# Altium schematic symbol library SCH-26325_B1_Library.SchLib: 29 symbols
Pins are listed as number, name and electrical type; pins without a type are passive.

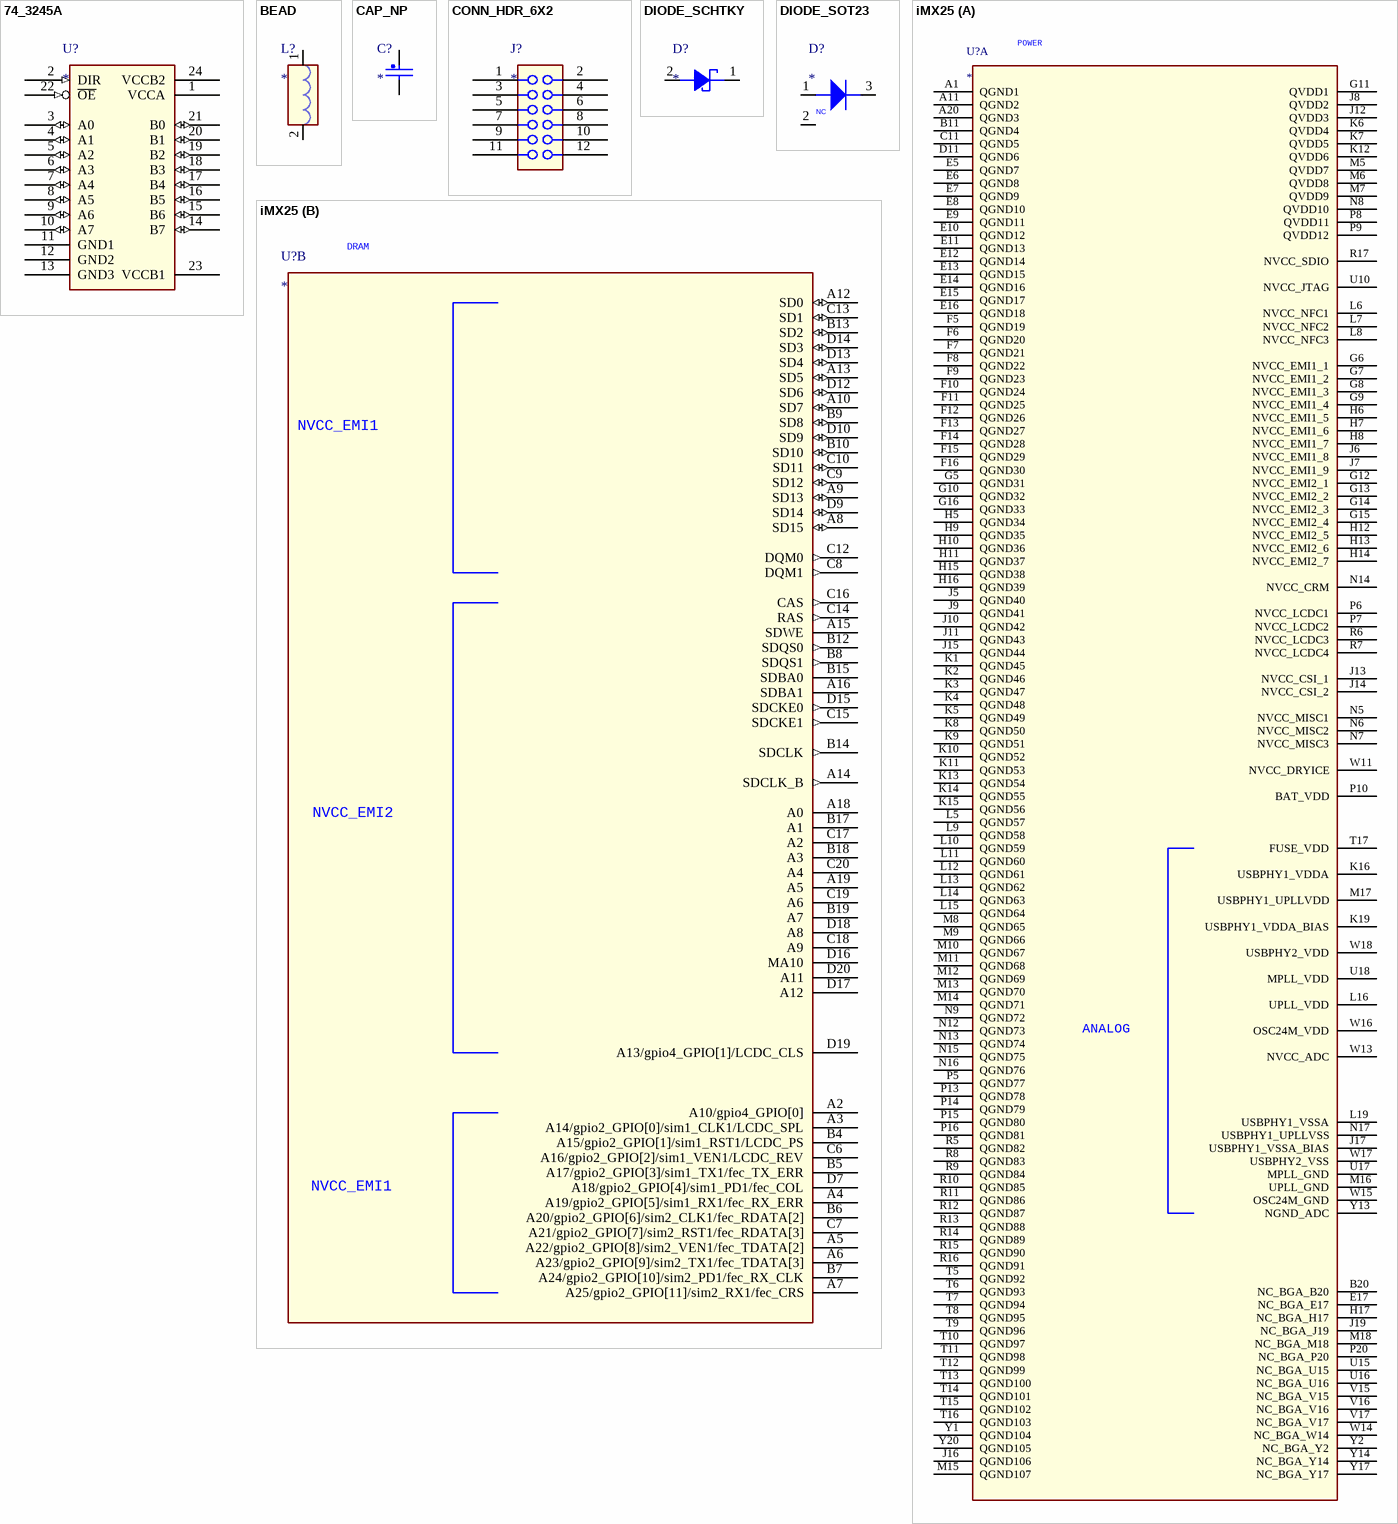
[diagram p0: symbols 74_3245A to iMX25]

## 74_3245A
designator U?
pins: 1 VCCA (power), 2 DIR (in), 3 A0 (io), 4 A1 (io), 5 A2 (io), 6 A3 (io), 7 A4 (io), 8 A5 (io), 9 A6 (io), 10 A7 (io), 11 GND1 (power), 12 GND2 (power), 13 GND3 (power), 14 B7 (io), 15 B6 (io), 16 B5 (io), 17 B4 (io), 18 B3 (io), 19 B2 (io), 20 B1 (io), 21 B0 (io), 22 ~{OE} (in), 23 VCCB1 (power), 24 VCCB2 (power)

## BEAD
designator L?
pins: 1, 2

## CAP_NP
designator C?
pins: 1, 2

## CONN_HDR_6X2
designator J?
pins: 1 A1, 2 B1, 3 A2, 4 B2, 5 A3, 6 B3, 7 A4, 8 B4, 9 A5, 10 B5, 11 A6, 12 B6

## DIODE_SCHTKY
designator D?
pins: 1 C, 2 A

## DIODE_SOT23
designator D?
pins: 1 ANODE1, 2 NC, 3 CATHODE1ANODE2

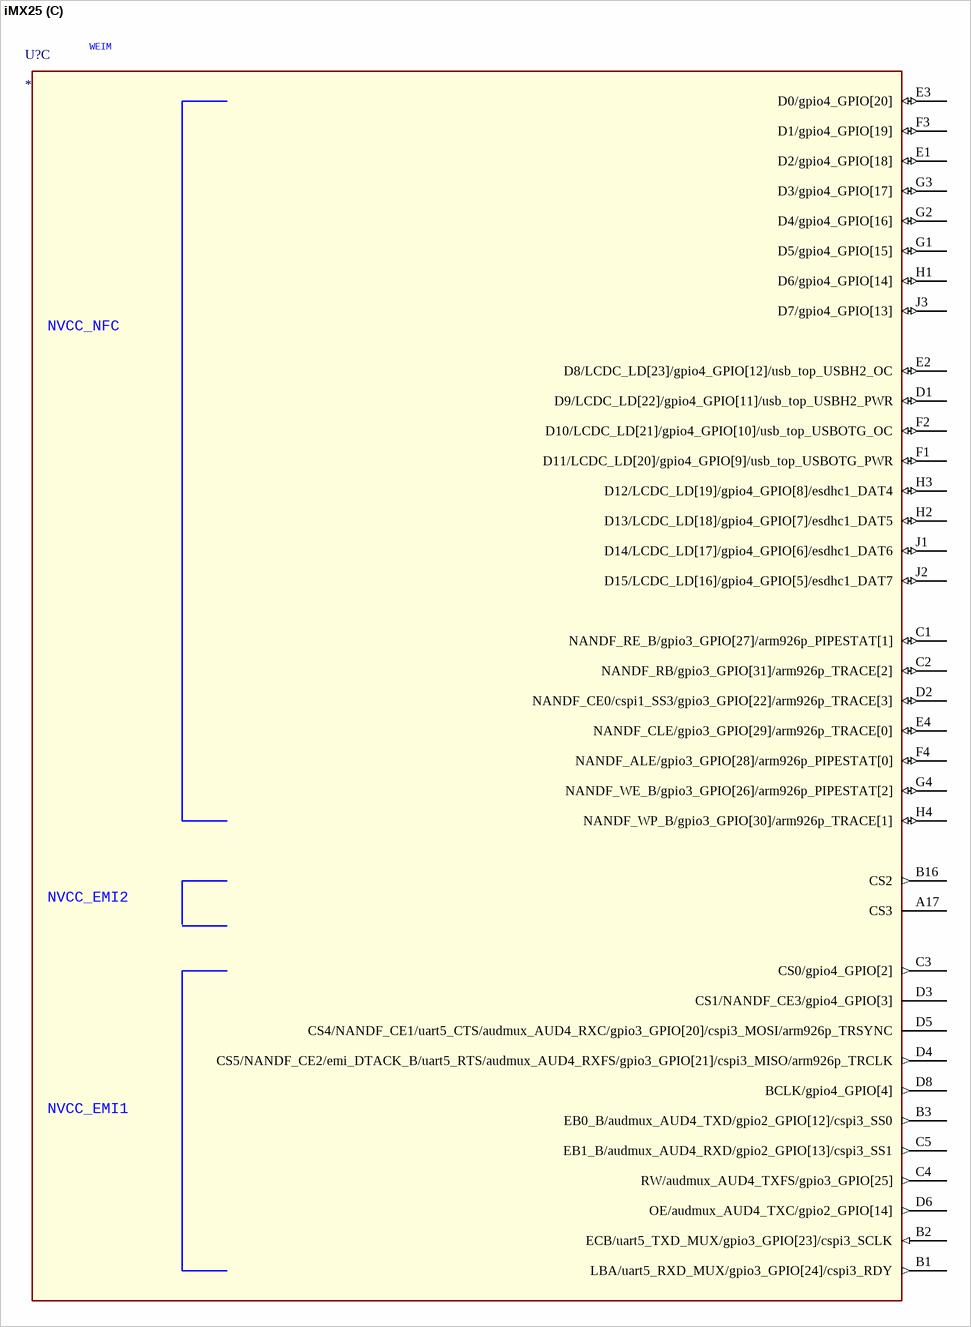
[diagram p1: symbol iMX25]

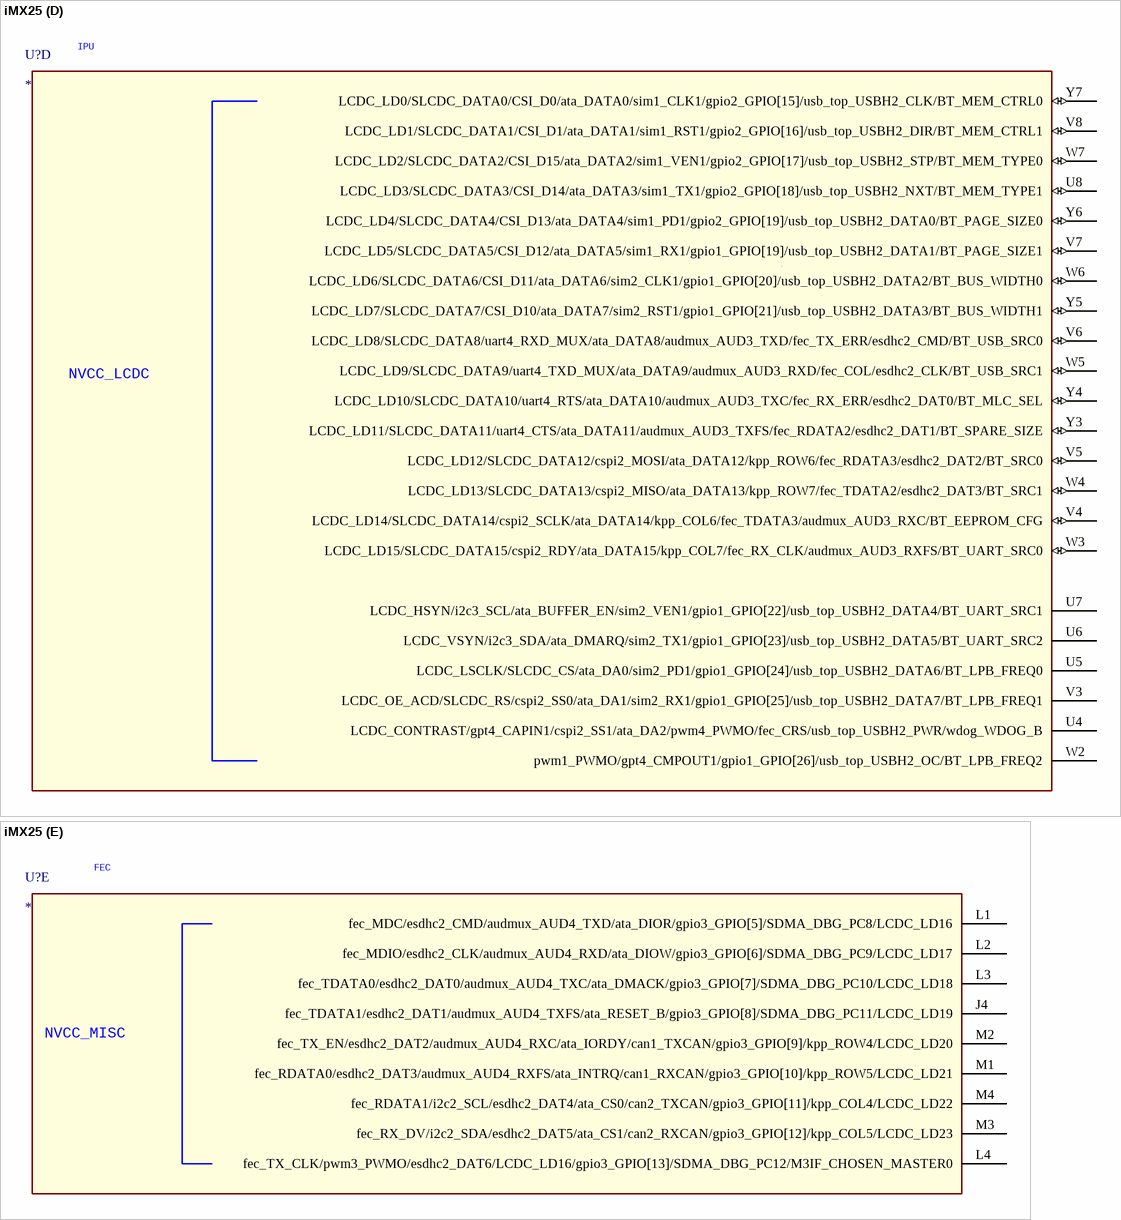
[diagram p2: symbol iMX25]

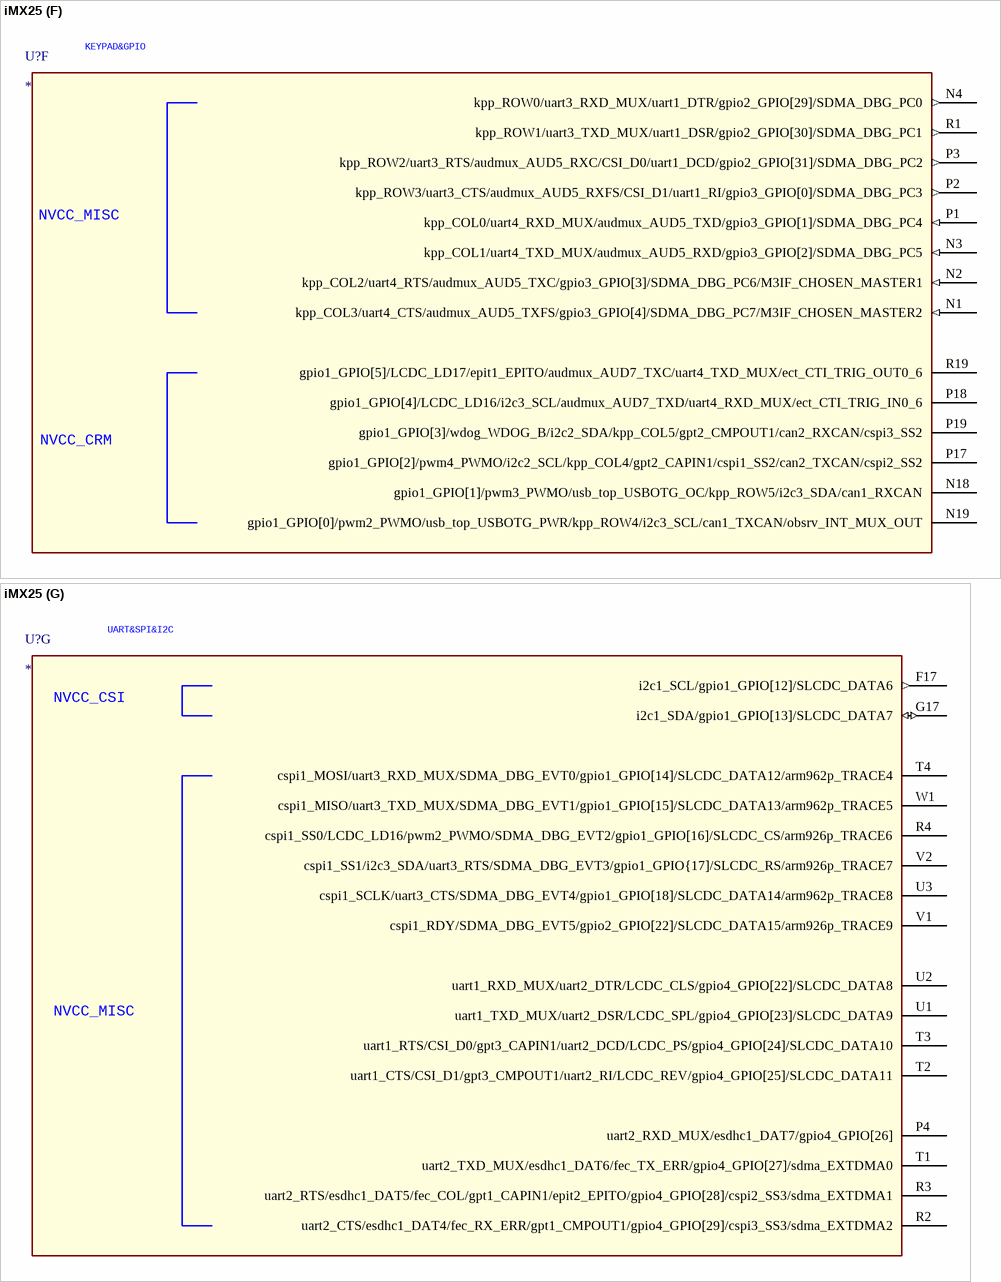
[diagram p3: symbol iMX25]

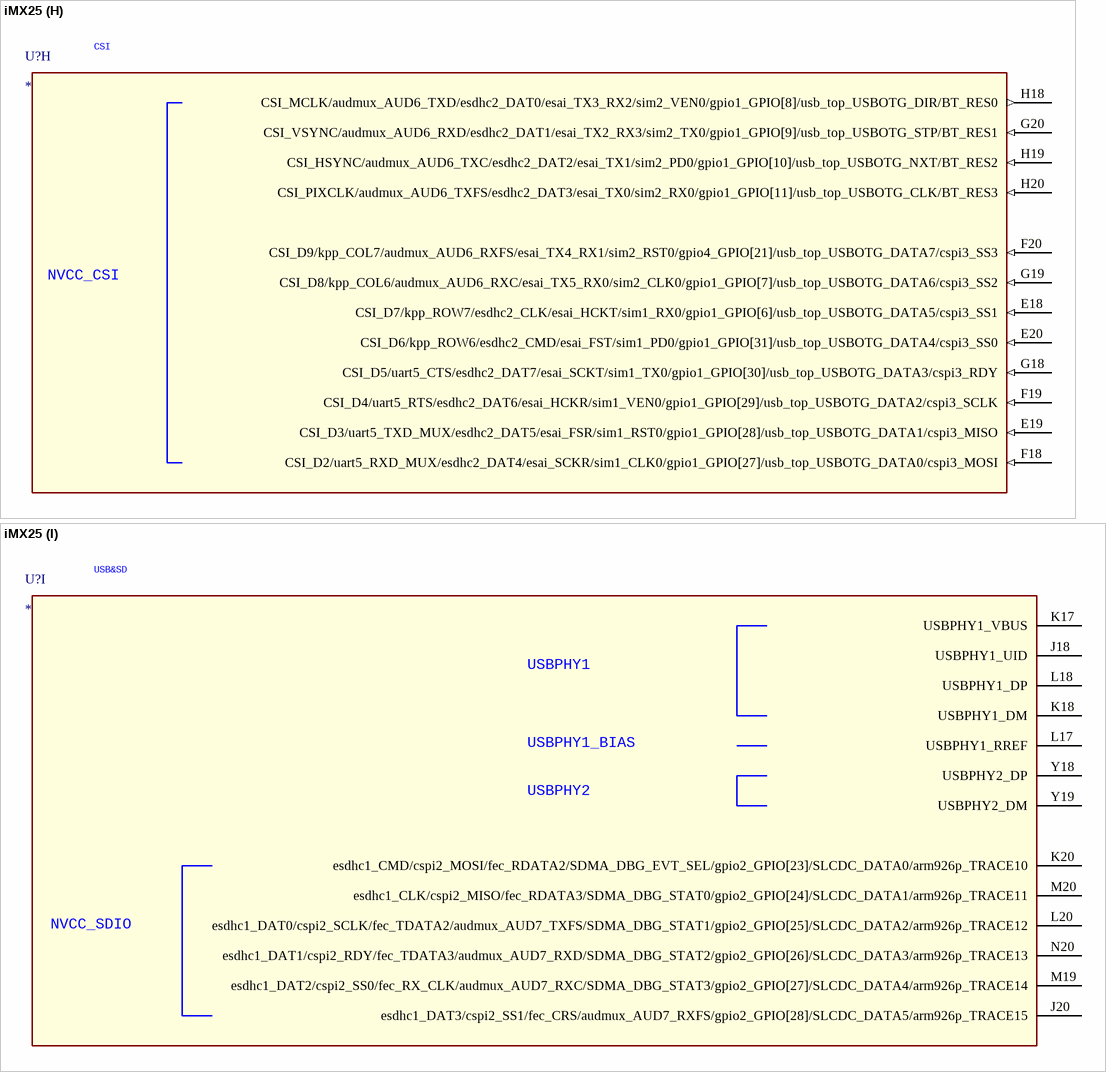
[diagram p4: symbol iMX25]

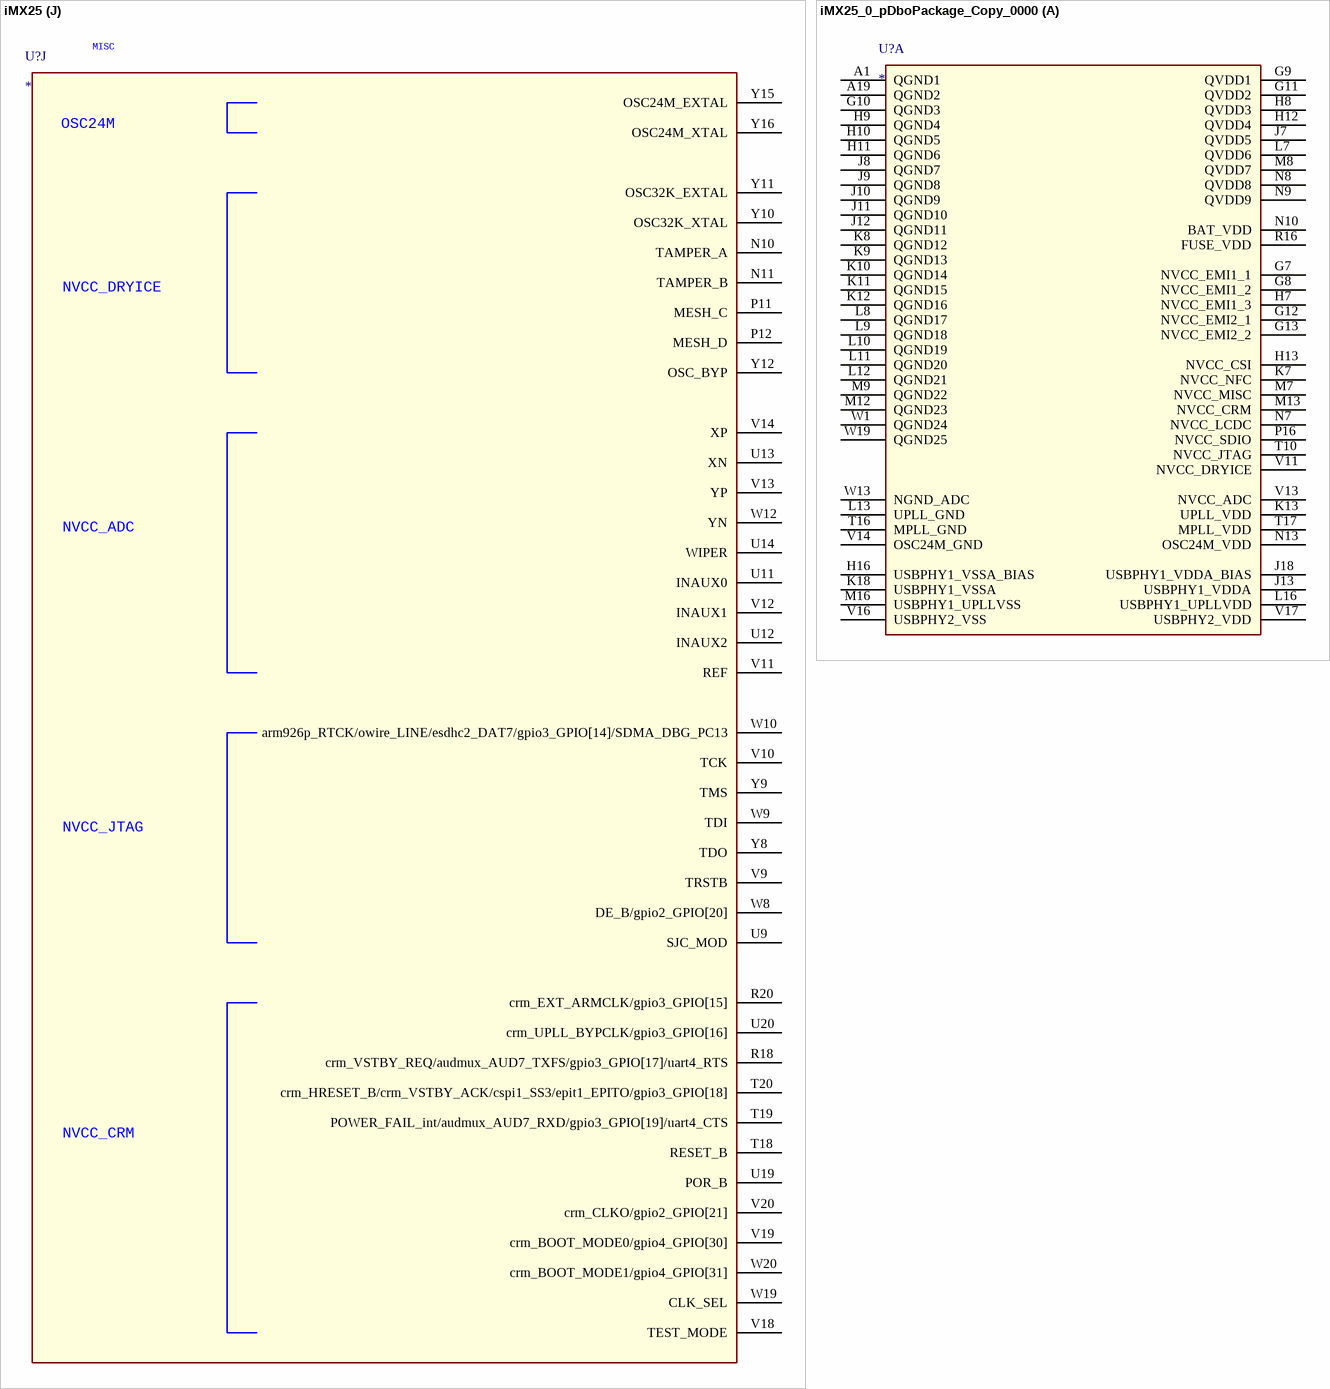
[diagram p5: symbols iMX25 to iMX25_0_pDboPackage_Copy_0000]

## iMX25
designator U?
part A pins: A1 QGND1, A11 QGND2, A20 QGND3, B11 QGND4, B20 NC_BGA_B20, C11 QGND5, D11 QGND6, E5 QGND7, E6 QGND8, E7 QGND9, E8 QGND10, E9 QGND11, E10 QGND12, E11 QGND13, E12 QGND14, E13 QGND15, E14 QGND16, E15 QGND17, E16 QGND18, E17 NC_BGA_E17, F5 QGND19, F6 QGND20, F7 QGND21, F8 QGND22, F9 QGND23, F10 QGND24, F11 QGND25, F12 QGND26, F13 QGND27, F14 QGND28, F15 QGND29, F16 QGND30, G5 QGND31, G6 NVCC_EMI1_1 (power), G7 NVCC_EMI1_2 (power), G8 NVCC_EMI1_3 (power), G9 NVCC_EMI1_4 (power), G10 QGND32, G11 QVDD1 (power), G12 NVCC_EMI2_1 (power), G13 NVCC_EMI2_2 (power), G14 NVCC_EMI2_3 (power), G15 NVCC_EMI2_4 (power), G16 QGND33, H5 QGND34, H6 NVCC_EMI1_5 (power), H7 NVCC_EMI1_6 (power), H8 NVCC_EMI1_7 (power), H9 QGND35, H10 QGND36, H11 QGND37, H12 NVCC_EMI2_5 (power), H13 NVCC_EMI2_6 (power), H14 NVCC_EMI2_7 (power), H15 QGND38, H16 QGND39, H17 NC_BGA_H17, J5 QGND40, J6 NVCC_EMI1_8 (power), J7 NVCC_EMI1_9 (power), J8 QVDD2 (power), J9 QGND41, J10 QGND42, J11 QGND43, J12 QVDD3 (power), J13 NVCC_CSI_1 (power), J14 NVCC_CSI_2 (power), J15 QGND44, J16 QGND106, J17 USBPHY1_VSSA_BIAS (power), J19 NC_BGA_J19, K1 QGND45, K2 QGND46, K3 QGND47, K4 QGND48, K5 QGND49, K6 QVDD4 (power), K7 QVDD5 (power), K8 QGND50, K9 QGND51, K10 QGND52, K11 QGND53, K12 QVDD6 (power), K13 QGND54, K14 QGND55, K15 QGND56, K16 USBPHY1_VDDA (power), K19 USBPHY1_VDDA_BIAS (power), L5 QGND57, L6 NVCC_NFC1 (power), L7 NVCC_NFC2 (power), L8 NVCC_NFC3 (power), L9 QGND58, L10 QGND59, L11 QGND60, L12 QGND61, L13 QGND62, L14 QGND63, L15 QGND64, L16 UPLL_VDD (power), L19 USBPHY1_VSSA (power), M5 QVDD7 (power), M6 QVDD8 (power), M7 QVDD9 (power), M8 QGND65, M9 QGND66, M10 QGND67, M11 QGND68, M12 QGND69, M13 QGND70, M14 QGND71, M15 QGND107, M16 UPLL_GND (power), M17 USBPHY1_UPLLVDD (power), M18 NC_BGA_M18, N5 NVCC_MISC1 (power), N6 NVCC_MISC2 (power), N7 NVCC_MISC3 (power), N8 QVDD10 (power), N9 QGND72, N12 QGND73, N13 QGND74, N14 NVCC_CRM (power), N15 QGND75, N16 QGND76, N17 USBPHY1_UPLLVSS (power), P5 QGND77, P6 NVCC_LCDC1 (power), P7 NVCC_LCDC2 (power), P8 QVDD11 (power), P9 QVDD12 (power), P10 BAT_VDD (power), P13 QGND78, P14 QGND79, P15 QGND80, P16 QGND81, P20 NC_BGA_P20, R5 QGND82, R6 NVCC_LCDC3 (power), R7 NVCC_LCDC4 (power), R8 QGND83, R9 QGND84, R10 QGND85, R11 QGND86, R12 QGND87, R13 QGND88, R14 QGND89, R15 QGND90, R16 QGND91, R17 NVCC_SDIO (power), T5 QGND92, T6 QGND93, T7 QGND94, T8 QGND95, T9 QGND96, T10 QGND97, T11 QGND98, T12 QGND99, T13 QGND100, T14 QGND101, T15 QGND102, T16 QGND103, T17 FUSE_VDD (power), U10 NVCC_JTAG (power), U15 NC_BGA_U15, U16 NC_BGA_U16, U17 MPLL_GND (power), U18 MPLL_VDD (power), V15 NC_BGA_V15, V16 NC_BGA_V16, V17 NC_BGA_V17, W11 NVCC_DRYICE (power), W13 NVCC_ADC (power), W14 NC_BGA_W14, W15 OSC24M_GND (power), W16 OSC24M_VDD (power), W17 USBPHY2_VSS (power), W18 USBPHY2_VDD (power), Y1 QGND104, Y2 NC_BGA_Y2, Y13 NGND_ADC (power), Y14 NC_BGA_Y14, Y17 NC_BGA_Y17, Y20 QGND105
part B pins: A2 A10/gpio4_GPIO[0], A3 A14/gpio2_GPIO[0]/sim1_CLK1/LCDC_SPL, A4 A19/gpio2_GPIO[5]/sim1_RX1/fec_RX_ERR, A5 A22/gpio2_GPIO[8]/sim2_VEN1/fec_TDATA[2], A6 A23/gpio2_GPIO[9]/sim2_TX1/fec_TDATA[3], A7 A25/gpio2_GPIO[11]/sim2_RX1/fec_CRS, A8 SD15 (io), A9 SD13 (io), A10 SD7 (io), A12 SD0 (io), A13 SD5 (io), A14 SDCLK_B (out), A15 SDWE, A16 SDBA1, A18 A0, A19 A5, B4 A15/gpio2_GPIO[1]/sim1_RST1/LCDC_PS, B5 A17/gpio2_GPIO[3]/sim1_TX1/fec_TX_ERR, B6 A20/gpio2_GPIO[6]/sim2_CLK1/fec_RDATA[2], B7 A24/gpio2_GPIO[10]/sim2_PD1/fec_RX_CLK, B8 SDQS1 (out), B9 SD8 (io), B10 SD10 (io), B12 SDQS0 (out), B13 SD2 (io), B14 SDCLK (out), B15 SDBA0, B17 A1, B18 A3, B19 A7, C6 A16/gpio2_GPIO[2]/sim1_VEN1/LCDC_REV, C7 A21/gpio2_GPIO[7]/sim2_RST1/fec_RDATA[3], C8 DQM1 (out), C9 SD12 (io), C10 SD11 (io), C12 DQM0 (out), C13 SD1 (io), C14 RAS (out), C15 SDCKE1 (out), C16 CAS (out), C17 A2, C18 A9, C19 A6, C20 A4, D7 A18/gpio2_GPIO[4]/sim1_PD1/fec_COL, D9 SD14 (io), D10 SD9 (io), D12 SD6 (io), D13 SD4 (io), D14 SD3 (io), D15 SDCKE0 (out), D16 MA10, D17 A12, D18 A8, D19 A13/gpio4_GPIO[1]/LCDC_CLS, D20 A11
part C pins: A17 CS3, B1 LBA/uart5_RXD_MUX/gpio3_GPIO[24]/cspi3_RDY (out), B2 ECB/uart5_TXD_MUX/gpio3_GPIO[23]/cspi3_SCLK (in), B3 EB0_B/audmux_AUD4_TXD/gpio2_GPIO[12]/cspi3_SS0 (out), B16 CS2 (out), C1 NANDF_RE_B/gpio3_GPIO[27]/arm926p_PIPESTAT[1] (io), C2 NANDF_RB/gpio3_GPIO[31]/arm926p_TRACE[2] (io), C3 CS0/gpio4_GPIO[2] (out), C4 RW/audmux_AUD4_TXFS/gpio3_GPIO[25] (out), C5 EB1_B/audmux_AUD4_RXD/gpio2_GPIO[13]/cspi3_SS1 (out), D1 D9/LCDC_LD[22]/gpio4_GPIO[11]/usb_top_USBH2_PWR (io), D2 NANDF_CE0/cspi1_SS3/gpio3_GPIO[22]/arm926p_TRACE[3] (io), D3 CS1/NANDF_CE3/gpio4_GPIO[3], D4 CS5/NANDF_CE2/emi_DTACK_B/uart5_RTS/audmux_AUD4_RXFS/gpio3_GPIO[21]/cspi3_MISO/arm926p_TRCLK (out), D5 CS4/NANDF_CE1/uart5_CTS/audmux_AUD4_RXC/gpio3_GPIO[20]/cspi3_MOSI/arm926p_TRSYNC, D6 OE/audmux_AUD4_TXC/gpio2_GPIO[14] (out), D8 BCLK/gpio4_GPIO[4] (out), E1 D2/gpio4_GPIO[18] (io), E2 D8/LCDC_LD[23]/gpio4_GPIO[12]/usb_top_USBH2_OC (io), E3 D0/gpio4_GPIO[20] (io), E4 NANDF_CLE/gpio3_GPIO[29]/arm926p_TRACE[0] (io), F1 D11/LCDC_LD[20]/gpio4_GPIO[9]/usb_top_USBOTG_PWR (io), F2 D10/LCDC_LD[21]/gpio4_GPIO[10]/usb_top_USBOTG_OC (io), F3 D1/gpio4_GPIO[19] (io), F4 NANDF_ALE/gpio3_GPIO[28]/arm926p_PIPESTAT[0] (io), G1 D5/gpio4_GPIO[15] (io), G2 D4/gpio4_GPIO[16] (io), G3 D3/gpio4_GPIO[17] (io), G4 NANDF_WE_B/gpio3_GPIO[26]/arm926p_PIPESTAT[2] (io), H1 D6/gpio4_GPIO[14] (io), H2 D13/LCDC_LD[18]/gpio4_GPIO[7]/esdhc1_DAT5 (io), H3 D12/LCDC_LD[19]/gpio4_GPIO[8]/esdhc1_DAT4 (io), H4 NANDF_WP_B/gpio3_GPIO[30]/arm926p_TRACE[1] (io), J1 D14/LCDC_LD[17]/gpio4_GPIO[6]/esdhc1_DAT6 (io), J2 D15/LCDC_LD[16]/gpio4_GPIO[5]/esdhc1_DAT7 (io), J3 D7/gpio4_GPIO[13] (io)
part D pins: U4 LCDC_CONTRAST/gpt4_CAPIN1/cspi2_SS1/ata_DA2/pwm4_PWMO/fec_CRS/usb_top_USBH2_PWR/wdog_WDOG_B, U5 LCDC_LSCLK/SLCDC_CS/ata_DA0/sim2_PD1/gpio1_GPIO[24]/usb_top_USBH2_DATA6/BT_LPB_FREQ0, U6 LCDC_VSYN/i2c3_SDA/ata_DMARQ/sim2_TX1/gpio1_GPIO[23]/usb_top_USBH2_DATA5/BT_UART_SRC2, U7 LCDC_HSYN/i2c3_SCL/ata_BUFFER_EN/sim2_VEN1/gpio1_GPIO[22]/usb_top_USBH2_DATA4/BT_UART_SRC1, U8 LCDC_LD3/SLCDC_DATA3/CSI_D14/ata_DATA3/sim1_TX1/gpio2_GPIO[18]/usb_top_USBH2_NXT/BT_MEM_TYPE1 (io), V3 LCDC_OE_ACD/SLCDC_RS/cspi2_SS0/ata_DA1/sim2_RX1/gpio1_GPIO[25]/usb_top_USBH2_DATA7/BT_LPB_FREQ1, V4 LCDC_LD14/SLCDC_DATA14/cspi2_SCLK/ata_DATA14/kpp_COL6/fec_TDATA3/audmux_AUD3_RXC/BT_EEPROM_CFG (io), V5 LCDC_LD12/SLCDC_DATA12/cspi2_MOSI/ata_DATA12/kpp_ROW6/fec_RDATA3/esdhc2_DAT2/BT_SRC0 (io), V6 LCDC_LD8/SLCDC_DATA8/uart4_RXD_MUX/ata_DATA8/audmux_AUD3_TXD/fec_TX_ERR/esdhc2_CMD/BT_USB_SRC0 (io), V7 LCDC_LD5/SLCDC_DATA5/CSI_D12/ata_DATA5/sim1_RX1/gpio1_GPIO[19]/usb_top_USBH2_DATA1/BT_PAGE_SIZE1 (io), V8 LCDC_LD1/SLCDC_DATA1/CSI_D1/ata_DATA1/sim1_RST1/gpio2_GPIO[16]/usb_top_USBH2_DIR/BT_MEM_CTRL1 (io), W2 pwm1_PWMO/gpt4_CMPOUT1/gpio1_GPIO[26]/usb_top_USBH2_OC/BT_LPB_FREQ2, W3 LCDC_LD15/SLCDC_DATA15/cspi2_RDY/ata_DATA15/kpp_COL7/fec_RX_CLK/audmux_AUD3_RXFS/BT_UART_SRC0 (io), W4 LCDC_LD13/SLCDC_DATA13/cspi2_MISO/ata_DATA13/kpp_ROW7/fec_TDATA2/esdhc2_DAT3/BT_SRC1 (io), W5 LCDC_LD9/SLCDC_DATA9/uart4_TXD_MUX/ata_DATA9/audmux_AUD3_RXD/fec_COL/esdhc2_CLK/BT_USB_SRC1 (io), W6 LCDC_LD6/SLCDC_DATA6/CSI_D11/ata_DATA6/sim2_CLK1/gpio1_GPIO[20]/usb_top_USBH2_DATA2/BT_BUS_WIDTH0 (io), W7 LCDC_LD2/SLCDC_DATA2/CSI_D15/ata_DATA2/sim1_VEN1/gpio2_GPIO[17]/usb_top_USBH2_STP/BT_MEM_TYPE0 (io), Y3 LCDC_LD11/SLCDC_DATA11/uart4_CTS/ata_DATA11/audmux_AUD3_TXFS/fec_RDATA2/esdhc2_DAT1/BT_SPARE_SIZE (io), Y4 LCDC_LD10/SLCDC_DATA10/uart4_RTS/ata_DATA10/audmux_AUD3_TXC/fec_RX_ERR/esdhc2_DAT0/BT_MLC_SEL (io), Y5 LCDC_LD7/SLCDC_DATA7/CSI_D10/ata_DATA7/sim2_RST1/gpio1_GPIO[21]/usb_top_USBH2_DATA3/BT_BUS_WIDTH1 (io), Y6 LCDC_LD4/SLCDC_DATA4/CSI_D13/ata_DATA4/sim1_PD1/gpio2_GPIO[19]/usb_top_USBH2_DATA0/BT_PAGE_SIZE0 (io), Y7 LCDC_LD0/SLCDC_DATA0/CSI_D0/ata_DATA0/sim1_CLK1/gpio2_GPIO[15]/usb_top_USBH2_CLK/BT_MEM_CTRL0 (io)
part E pins: J4 fec_TDATA1/esdhc2_DAT1/audmux_AUD4_TXFS/ata_RESET_B/gpio3_GPIO[8]/SDMA_DBG_PC11/LCDC_LD19, L1 fec_MDC/esdhc2_CMD/audmux_AUD4_TXD/ata_DIOR/gpio3_GPIO[5]/SDMA_DBG_PC8/LCDC_LD16, L2 fec_MDIO/esdhc2_CLK/audmux_AUD4_RXD/ata_DIOW/gpio3_GPIO[6]/SDMA_DBG_PC9/LCDC_LD17, L3 fec_TDATA0/esdhc2_DAT0/audmux_AUD4_TXC/ata_DMACK/gpio3_GPIO[7]/SDMA_DBG_PC10/LCDC_LD18, L4 fec_TX_CLK/pwm3_PWMO/esdhc2_DAT6/LCDC_LD16/gpio3_GPIO[13]/SDMA_DBG_PC12/M3IF_CHOSEN_MASTER0, M1 fec_RDATA0/esdhc2_DAT3/audmux_AUD4_RXFS/ata_INTRQ/can1_RXCAN/gpio3_GPIO[10]/kpp_ROW5/LCDC_LD21, M2 fec_TX_EN/esdhc2_DAT2/audmux_AUD4_RXC/ata_IORDY/can1_TXCAN/gpio3_GPIO[9]/kpp_ROW4/LCDC_LD20, M3 fec_RX_DV/i2c2_SDA/esdhc2_DAT5/ata_CS1/can2_RXCAN/gpio3_GPIO[12]/kpp_COL5/LCDC_LD23, M4 fec_RDATA1/i2c2_SCL/esdhc2_DAT4/ata_CS0/can2_TXCAN/gpio3_GPIO[11]/kpp_COL4/LCDC_LD22
part F pins: N1 kpp_COL3/uart4_CTS/audmux_AUD5_TXFS/gpio3_GPIO[4]/SDMA_DBG_PC7/M3IF_CHOSEN_MASTER2 (in), N2 kpp_COL2/uart4_RTS/audmux_AUD5_TXC/gpio3_GPIO[3]/SDMA_DBG_PC6/M3IF_CHOSEN_MASTER1 (in), N3 kpp_COL1/uart4_TXD_MUX/audmux_AUD5_RXD/gpio3_GPIO[2]/SDMA_DBG_PC5 (in), N4 kpp_ROW0/uart3_RXD_MUX/uart1_DTR/gpio2_GPIO[29]/SDMA_DBG_PC0 (out), N18 gpio1_GPIO[1]/pwm3_PWMO/usb_top_USBOTG_OC/kpp_ROW5/i2c3_SDA/can1_RXCAN, N19 gpio1_GPIO[0]/pwm2_PWMO/usb_top_USBOTG_PWR/kpp_ROW4/i2c3_SCL/can1_TXCAN/obsrv_INT_MUX_OUT, P1 kpp_COL0/uart4_RXD_MUX/audmux_AUD5_TXD/gpio3_GPIO[1]/SDMA_DBG_PC4 (in), P2 kpp_ROW3/uart3_CTS/audmux_AUD5_RXFS/CSI_D1/uart1_RI/gpio3_GPIO[0]/SDMA_DBG_PC3 (out), P3 kpp_ROW2/uart3_RTS/audmux_AUD5_RXC/CSI_D0/uart1_DCD/gpio2_GPIO[31]/SDMA_DBG_PC2 (out), P17 gpio1_GPIO[2]/pwm4_PWMO/i2c2_SCL/kpp_COL4/gpt2_CAPIN1/cspi1_SS2/can2_TXCAN/cspi2_SS2, P18 gpio1_GPIO[4]/LCDC_LD16/i2c3_SCL/audmux_AUD7_TXD/uart4_RXD_MUX/ect_CTI_TRIG_IN0_6, P19 gpio1_GPIO[3]/wdog_WDOG_B/i2c2_SDA/kpp_COL5/gpt2_CMPOUT1/can2_RXCAN/cspi3_SS2, R1 kpp_ROW1/uart3_TXD_MUX/uart1_DSR/gpio2_GPIO[30]/SDMA_DBG_PC1 (out), R19 gpio1_GPIO[5]/LCDC_LD17/epit1_EPITO/audmux_AUD7_TXC/uart4_TXD_MUX/ect_CTI_TRIG_OUT0_6
part G pins: F17 i2c1_SCL/gpio1_GPIO[12]/SLCDC_DATA6 (out), G17 i2c1_SDA/gpio1_GPIO[13]/SLCDC_DATA7 (io), P4 uart2_RXD_MUX/esdhc1_DAT7/gpio4_GPIO[26], R2 uart2_CTS/esdhc1_DAT4/fec_RX_ERR/gpt1_CMPOUT1/gpio4_GPIO[29]/cspi3_SS3/sdma_EXTDMA2, R3 uart2_RTS/esdhc1_DAT5/fec_COL/gpt1_CAPIN1/epit2_EPITO/gpio4_GPIO[28]/cspi2_SS3/sdma_EXTDMA1, R4 cspi1_SS0/LCDC_LD16/pwm2_PWMO/SDMA_DBG_EVT2/gpio1_GPIO[16]/SLCDC_CS/arm926p_TRACE6, T1 uart2_TXD_MUX/esdhc1_DAT6/fec_TX_ERR/gpio4_GPIO[27]/sdma_EXTDMA0, T2 uart1_CTS/CSI_D1/gpt3_CMPOUT1/uart2_RI/LCDC_REV/gpio4_GPIO[25]/SLCDC_DATA11, T3 uart1_RTS/CSI_D0/gpt3_CAPIN1/uart2_DCD/LCDC_PS/gpio4_GPIO[24]/SLCDC_DATA10, T4 cspi1_MOSI/uart3_RXD_MUX/SDMA_DBG_EVT0/gpio1_GPIO[14]/SLCDC_DATA12/arm962p_TRACE4, U1 uart1_TXD_MUX/uart2_DSR/LCDC_SPL/gpio4_GPIO[23]/SLCDC_DATA9, U2 uart1_RXD_MUX/uart2_DTR/LCDC_CLS/gpio4_GPIO[22]/SLCDC_DATA8, U3 cspi1_SCLK/uart3_CTS/SDMA_DBG_EVT4/gpio1_GPIO[18]/SLCDC_DATA14/arm962p_TRACE8, V1 cspi1_RDY/SDMA_DBG_EVT5/gpio2_GPIO[22]/SLCDC_DATA15/arm926p_TRACE9, V2 cspi1_SS1/i2c3_SDA/uart3_RTS/SDMA_DBG_EVT3/gpio1_GPIO{17]/SLCDC_RS/arm926p_TRACE7, W1 cspi1_MISO/uart3_TXD_MUX/SDMA_DBG_EVT1/gpio1_GPIO[15]/SLCDC_DATA13/arm962p_TRACE5
part H pins: E18 CSI_D7/kpp_ROW7/esdhc2_CLK/esai_HCKT/sim1_RX0/gpio1_GPIO[6]/usb_top_USBOTG_DATA5/cspi3_SS1 (in), E19 CSI_D3/uart5_TXD_MUX/esdhc2_DAT5/esai_FSR/sim1_RST0/gpio1_GPIO[28]/usb_top_USBOTG_DATA1/cspi3_MISO (in), E20 CSI_D6/kpp_ROW6/esdhc2_CMD/esai_FST/sim1_PD0/gpio1_GPIO[31]/usb_top_USBOTG_DATA4/cspi3_SS0 (in), F18 CSI_D2/uart5_RXD_MUX/esdhc2_DAT4/esai_SCKR/sim1_CLK0/gpio1_GPIO[27]/usb_top_USBOTG_DATA0/cspi3_MOSI (in), F19 CSI_D4/uart5_RTS/esdhc2_DAT6/esai_HCKR/sim1_VEN0/gpio1_GPIO[29]/usb_top_USBOTG_DATA2/cspi3_SCLK (in), F20 CSI_D9/kpp_COL7/audmux_AUD6_RXFS/esai_TX4_RX1/sim2_RST0/gpio4_GPIO[21]/usb_top_USBOTG_DATA7/cspi3_SS3 (in), G18 CSI_D5/uart5_CTS/esdhc2_DAT7/esai_SCKT/sim1_TX0/gpio1_GPIO[30]/usb_top_USBOTG_DATA3/cspi3_RDY (in), G19 CSI_D8/kpp_COL6/audmux_AUD6_RXC/esai_TX5_RX0/sim2_CLK0/gpio1_GPIO[7]/usb_top_USBOTG_DATA6/cspi3_SS2 (in), G20 CSI_VSYNC/audmux_AUD6_RXD/esdhc2_DAT1/esai_TX2_RX3/sim2_TX0/gpio1_GPIO[9]/usb_top_USBOTG_STP/BT_RES1 (in), H18 CSI_MCLK/audmux_AUD6_TXD/esdhc2_DAT0/esai_TX3_RX2/sim2_VEN0/gpio1_GPIO[8]/usb_top_USBOTG_DIR/BT_RES0 (out), H19 CSI_HSYNC/audmux_AUD6_TXC/esdhc2_DAT2/esai_TX1/sim2_PD0/gpio1_GPIO[10]/usb_top_USBOTG_NXT/BT_RES2 (in), H20 CSI_PIXCLK/audmux_AUD6_TXFS/esdhc2_DAT3/esai_TX0/sim2_RX0/gpio1_GPIO[11]/usb_top_USBOTG_CLK/BT_RES3 (in)
part I pins: J18 USBPHY1_UID, J20 esdhc1_DAT3/cspi2_SS1/fec_CRS/audmux_AUD7_RXFS/gpio2_GPIO[28]/SLCDC_DATA5/arm926p_TRACE15, K17 USBPHY1_VBUS, K18 USBPHY1_DM, K20 esdhc1_CMD/cspi2_MOSI/fec_RDATA2/SDMA_DBG_EVT_SEL/gpio2_GPIO[23]/SLCDC_DATA0/arm926p_TRACE10, L17 USBPHY1_RREF, L18 USBPHY1_DP, L20 esdhc1_DAT0/cspi2_SCLK/fec_TDATA2/audmux_AUD7_TXFS/SDMA_DBG_STAT1/gpio2_GPIO[25]/SLCDC_DATA2/arm926p_TRACE12, M19 esdhc1_DAT2/cspi2_SS0/fec_RX_CLK/audmux_AUD7_RXC/SDMA_DBG_STAT3/gpio2_GPIO[27]/SLCDC_DATA4/arm926p_TRACE14, M20 esdhc1_CLK/cspi2_MISO/fec_RDATA3/SDMA_DBG_STAT0/gpio2_GPIO[24]/SLCDC_DATA1/arm926p_TRACE11, N20 esdhc1_DAT1/cspi2_RDY/fec_TDATA3/audmux_AUD7_RXD/SDMA_DBG_STAT2/gpio2_GPIO[26]/SLCDC_DATA3/arm926p_TRACE13, Y18 USBPHY2_DP, Y19 USBPHY2_DM
part J pins: N10 TAMPER_A, N11 TAMPER_B, P11 MESH_C, P12 MESH_D, R18 crm_VSTBY_REQ/audmux_AUD7_TXFS/gpio3_GPIO[17]/uart4_RTS, R20 crm_EXT_ARMCLK/gpio3_GPIO[15], T18 RESET_B, T19 POWER_FAIL_int/audmux_AUD7_RXD/gpio3_GPIO[19]/uart4_CTS, T20 crm_HRESET_B/crm_VSTBY_ACK/cspi1_SS3/epit1_EPITO/gpio3_GPIO[18], U9 SJC_MOD, U11 INAUX0, U12 INAUX2, U13 XN, U14 WIPER, U19 POR_B, U20 crm_UPLL_BYPCLK/gpio3_GPIO[16], V9 TRSTB, V10 TCK, V11 REF, V12 INAUX1, V13 YP, V14 XP, V18 TEST_MODE, V19 crm_BOOT_MODE0/gpio4_GPIO[30], V20 crm_CLKO/gpio2_GPIO[21], W8 DE_B/gpio2_GPIO[20], W9 TDI, W10 arm926p_RTCK/owire_LINE/esdhc2_DAT7/gpio3_GPIO[14]/SDMA_DBG_PC13, W12 YN, W19 CLK_SEL, W20 crm_BOOT_MODE1/gpio4_GPIO[31], Y8 TDO, Y9 TMS, Y10 OSC32K_XTAL, Y11 OSC32K_EXTAL, Y12 OSC_BYP, Y15 OSC24M_EXTAL, Y16 OSC24M_XTAL
part A text: POWER; ANALOG
part B text: DRAM; NVCC_EMI1; NVCC_EMI2
part C text: WEIM; NVCC_NFC; NVCC_EMI2; NVCC_EMI1
part D text: IPU; NVCC_LCDC
part E text: FEC; NVCC_MISC
part F text: KEYPAD&GPIO; NVCC_MISC
part G text: UART&SPI&I2C; NVCC_CSI; NVCC_MISC
part H text: CSI; NVCC_CSI
part I text: USB&SD; USBPHY1; USBPHY1_BIAS; USBPHY2
part J text: MISC; OSC24M

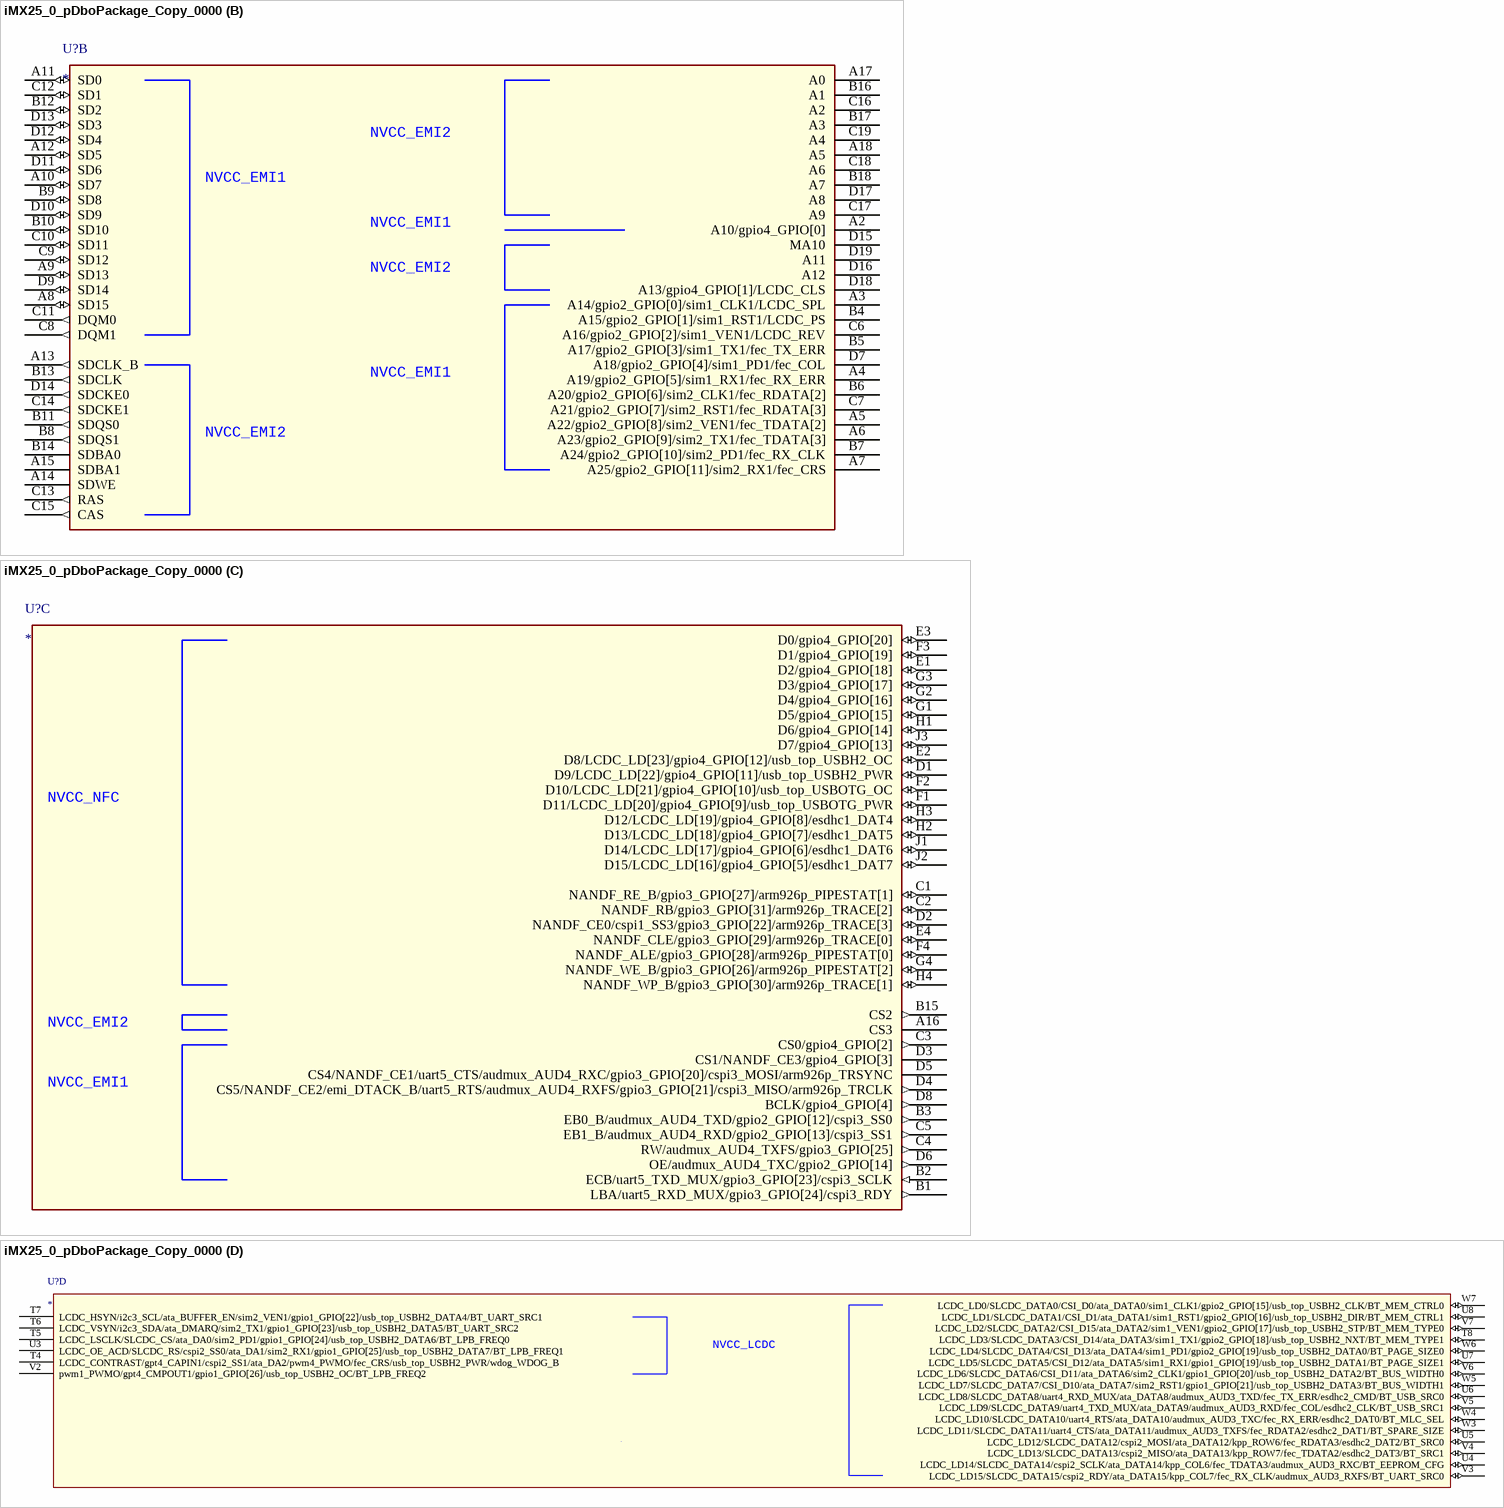
[diagram p6: symbol iMX25_0_pDboPackage_Copy_0000]

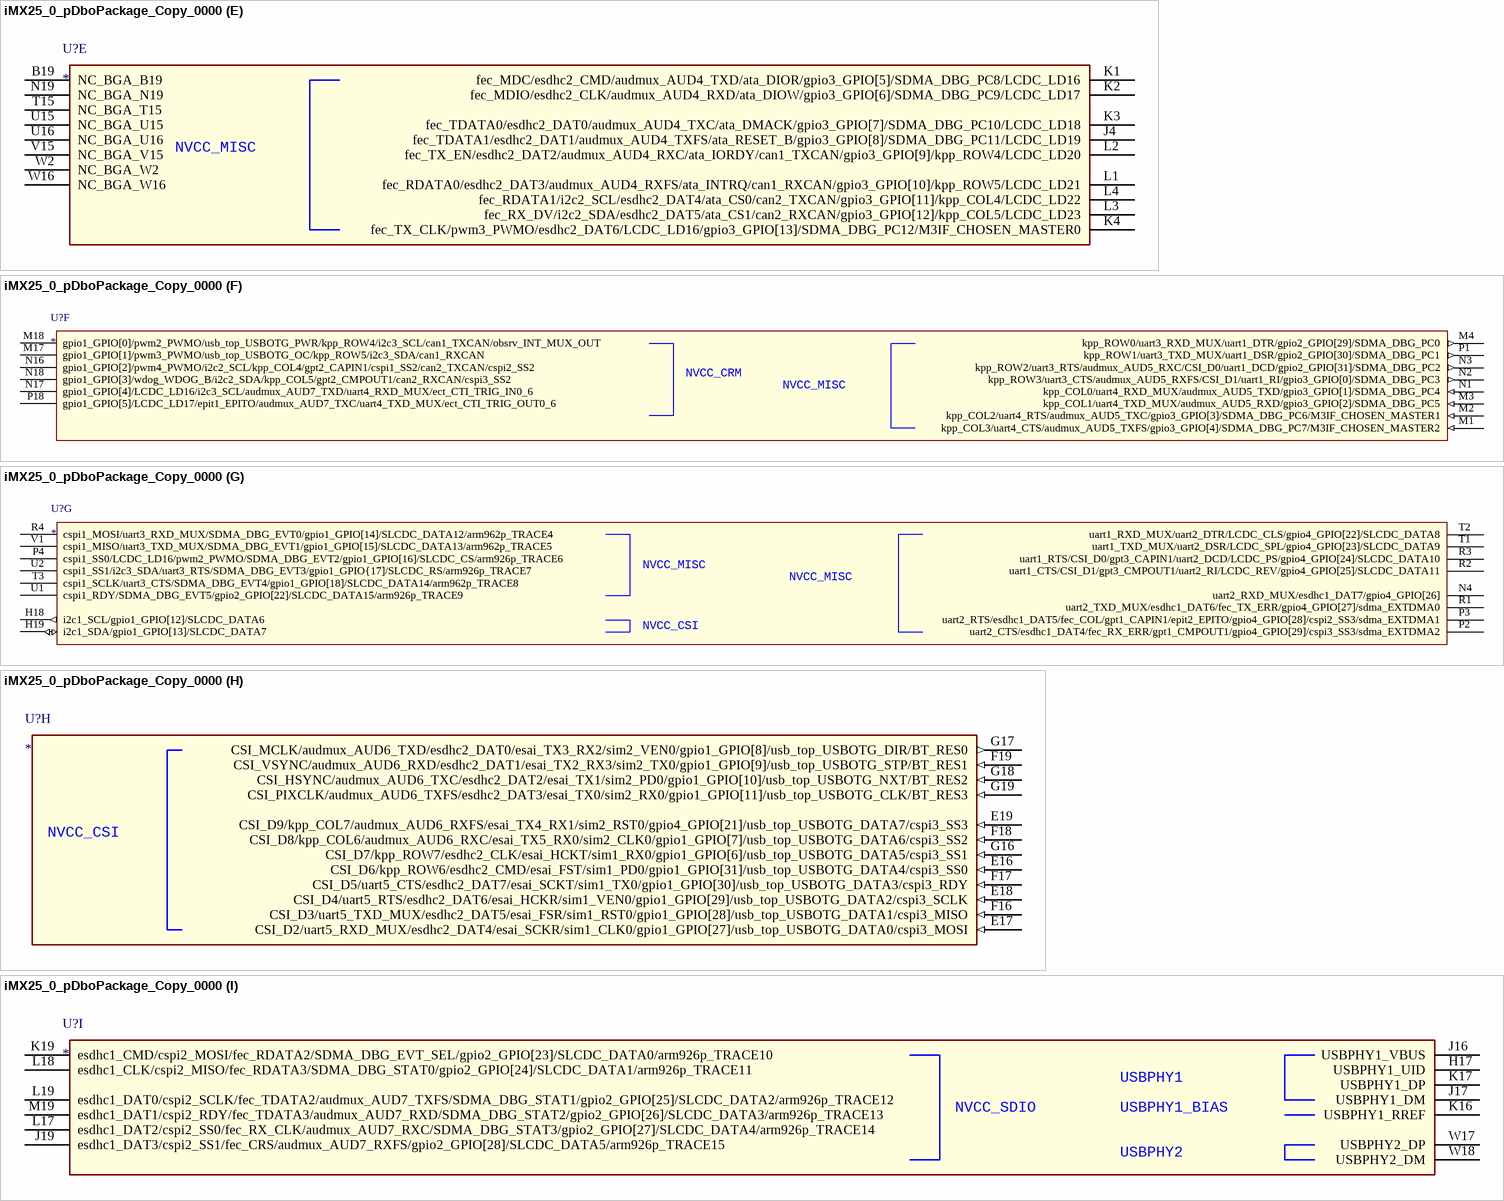
[diagram p7: symbol iMX25_0_pDboPackage_Copy_0000]

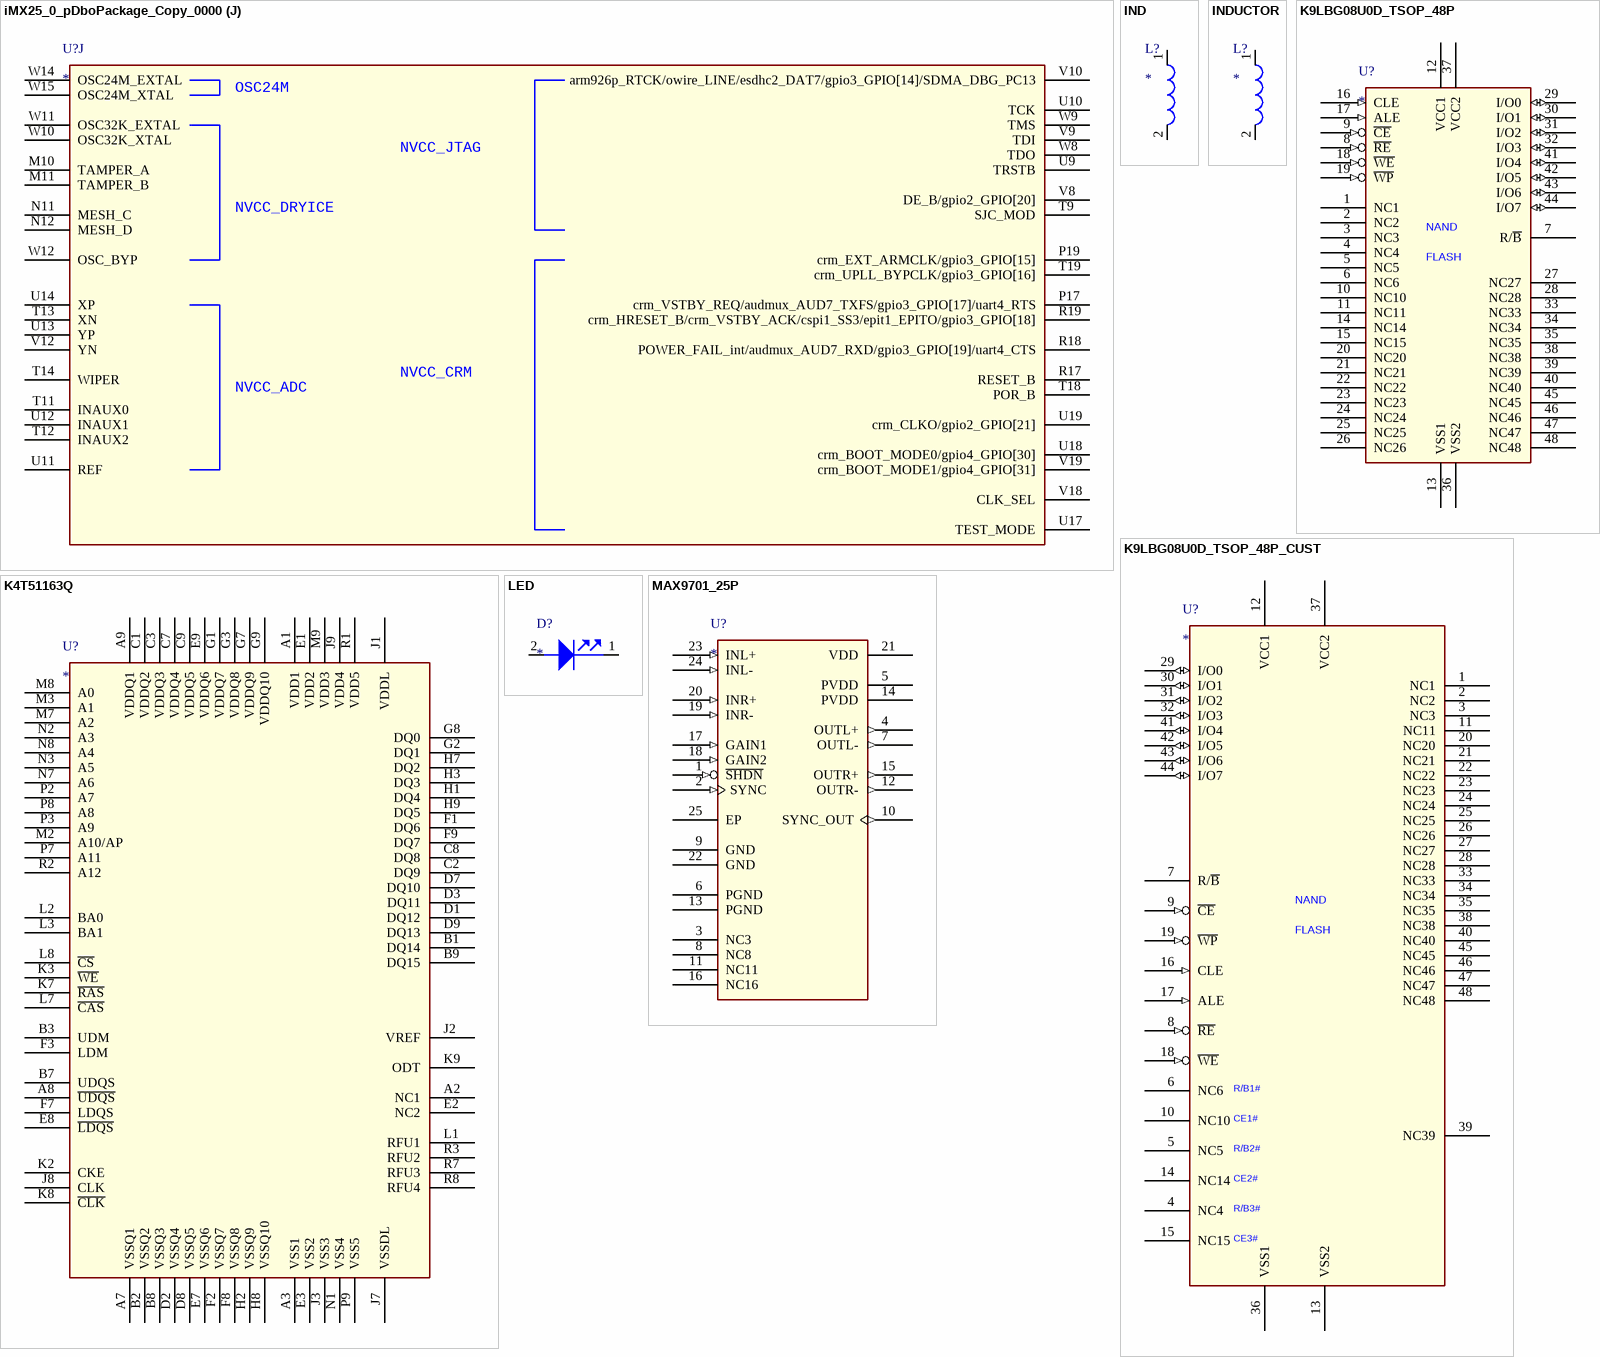
[diagram p8: symbols iMX25_0_pDboPackage_Copy_0000 to MAX9701_25P]

## iMX25_0_pDboPackage_Copy_0000
designator U?
footprint BGA289
part A pins: A1 QGND1 (power), A19 QGND2 (power), G7 NVCC_EMI1_1 (power), G8 NVCC_EMI1_2 (power), G9 QVDD1 (power), G10 QGND3 (power), G11 QVDD2 (power), G12 NVCC_EMI2_1 (power), G13 NVCC_EMI2_2 (power), H7 NVCC_EMI1_3 (power), H8 QVDD3 (power), H9 QGND4 (power), H10 QGND5 (power), H11 QGND6 (power), H12 QVDD4 (power), H13 NVCC_CSI (power), H16 USBPHY1_VSSA_BIAS (power), J7 QVDD5 (power), J8 QGND7 (power), J9 QGND8 (power), J10 QGND9 (power), J11 QGND10 (power), J12 QGND11 (power), J13 USBPHY1_VDDA (power), J18 USBPHY1_VDDA_BIAS (power), K7 NVCC_NFC (power), K8 QGND12 (power), K9 QGND13 (power), K10 QGND14 (power), K11 QGND15 (power), K12 QGND16 (power), K13 UPLL_VDD (power), K18 USBPHY1_VSSA (power), L7 QVDD6 (power), L8 QGND17 (power), L9 QGND18 (power), L10 QGND19 (power), L11 QGND20 (power), L12 QGND21 (power), L13 UPLL_GND (power), L16 USBPHY1_UPLLVDD (power), M7 NVCC_MISC (power), M8 QVDD7 (power), M9 QGND22 (power), M12 QGND23 (power), M13 NVCC_CRM (power), M16 USBPHY1_UPLLVSS (power), N7 NVCC_LCDC (power), N8 QVDD8 (power), N9 QVDD9 (power), N10 BAT_VDD (power), N13 OSC24M_VDD (power), P16 NVCC_SDIO (power), R16 FUSE_VDD (power), T10 NVCC_JTAG (power), T16 MPLL_GND (power), T17 MPLL_VDD (power), V11 NVCC_DRYICE (power), V13 NVCC_ADC (power), V14 OSC24M_GND (power), V16 USBPHY2_VSS (power), V17 USBPHY2_VDD (power), W1 QGND24 (power), W13 NGND_ADC (power), W19 QGND25 (power)
part B pins: A2 A10/gpio4_GPIO[0], A3 A14/gpio2_GPIO[0]/sim1_CLK1/LCDC_SPL, A4 A19/gpio2_GPIO[5]/sim1_RX1/fec_RX_ERR, A5 A22/gpio2_GPIO[8]/sim2_VEN1/fec_TDATA[2], A6 A23/gpio2_GPIO[9]/sim2_TX1/fec_TDATA[3], A7 A25/gpio2_GPIO[11]/sim2_RX1/fec_CRS, A8 SD15 (io), A9 SD13 (io), A10 SD7 (io), A11 SD0 (io), A12 SD5 (io), A13 SDCLK_B (out), A14 SDWE, A15 SDBA1, A17 A0, A18 A5, B4 A15/gpio2_GPIO[1]/sim1_RST1/LCDC_PS, B5 A17/gpio2_GPIO[3]/sim1_TX1/fec_TX_ERR, B6 A20/gpio2_GPIO[6]/sim2_CLK1/fec_RDATA[2], B7 A24/gpio2_GPIO[10]/sim2_PD1/fec_RX_CLK, B8 SDQS1 (out), B9 SD8 (io), B10 SD10 (io), B11 SDQS0 (out), B12 SD2 (io), B13 SDCLK (out), B14 SDBA0, B16 A1, B17 A3, B18 A7, C6 A16/gpio2_GPIO[2]/sim1_VEN1/LCDC_REV, C7 A21/gpio2_GPIO[7]/sim2_RST1/fec_RDATA[3], C8 DQM1 (out), C9 SD12 (io), C10 SD11 (io), C11 DQM0 (out), C12 SD1 (io), C13 RAS (out), C14 SDCKE1 (out), C15 CAS (out), C16 A2, C17 A9, C18 A6, C19 A4, D7 A18/gpio2_GPIO[4]/sim1_PD1/fec_COL, D9 SD14 (io), D10 SD9 (io), D11 SD6 (io), D12 SD4 (io), D13 SD3 (io), D14 SDCKE0 (out), D15 MA10, D16 A12, D17 A8, D18 A13/gpio4_GPIO[1]/LCDC_CLS, D19 A11
part C pins: A16 CS3, B1 LBA/uart5_RXD_MUX/gpio3_GPIO[24]/cspi3_RDY (out), B2 ECB/uart5_TXD_MUX/gpio3_GPIO[23]/cspi3_SCLK (in), B3 EB0_B/audmux_AUD4_TXD/gpio2_GPIO[12]/cspi3_SS0 (out), B15 CS2 (out), C1 NANDF_RE_B/gpio3_GPIO[27]/arm926p_PIPESTAT[1] (io), C2 NANDF_RB/gpio3_GPIO[31]/arm926p_TRACE[2] (io), C3 CS0/gpio4_GPIO[2] (out), C4 RW/audmux_AUD4_TXFS/gpio3_GPIO[25] (out), C5 EB1_B/audmux_AUD4_RXD/gpio2_GPIO[13]/cspi3_SS1 (out), D1 D9/LCDC_LD[22]/gpio4_GPIO[11]/usb_top_USBH2_PWR (io), D2 NANDF_CE0/cspi1_SS3/gpio3_GPIO[22]/arm926p_TRACE[3] (io), D3 CS1/NANDF_CE3/gpio4_GPIO[3], D4 CS5/NANDF_CE2/emi_DTACK_B/uart5_RTS/audmux_AUD4_RXFS/gpio3_GPIO[21]/cspi3_MISO/arm926p_TRCLK (out), D5 CS4/NANDF_CE1/uart5_CTS/audmux_AUD4_RXC/gpio3_GPIO[20]/cspi3_MOSI/arm926p_TRSYNC, D6 OE/audmux_AUD4_TXC/gpio2_GPIO[14] (out), D8 BCLK/gpio4_GPIO[4] (out), E1 D2/gpio4_GPIO[18] (io), E2 D8/LCDC_LD[23]/gpio4_GPIO[12]/usb_top_USBH2_OC (io), E3 D0/gpio4_GPIO[20] (io), E4 NANDF_CLE/gpio3_GPIO[29]/arm926p_TRACE[0] (io), F1 D11/LCDC_LD[20]/gpio4_GPIO[9]/usb_top_USBOTG_PWR (io), F2 D10/LCDC_LD[21]/gpio4_GPIO[10]/usb_top_USBOTG_OC (io), F3 D1/gpio4_GPIO[19] (io), F4 NANDF_ALE/gpio3_GPIO[28]/arm926p_PIPESTAT[0] (io), G1 D5/gpio4_GPIO[15] (io), G2 D4/gpio4_GPIO[16] (io), G3 D3/gpio4_GPIO[17] (io), G4 NANDF_WE_B/gpio3_GPIO[26]/arm926p_PIPESTAT[2] (io), H1 D6/gpio4_GPIO[14] (io), H2 D13/LCDC_LD[18]/gpio4_GPIO[7]/esdhc1_DAT5 (io), H3 D12/LCDC_LD[19]/gpio4_GPIO[8]/esdhc1_DAT4 (io), H4 NANDF_WP_B/gpio3_GPIO[30]/arm926p_TRACE[1] (io), J1 D14/LCDC_LD[17]/gpio4_GPIO[6]/esdhc1_DAT6 (io), J2 D15/LCDC_LD[16]/gpio4_GPIO[5]/esdhc1_DAT7 (io), J3 D7/gpio4_GPIO[13] (io)
part D pins: T4 LCDC_CONTRAST/gpt4_CAPIN1/cspi2_SS1/ata_DA2/pwm4_PWMO/fec_CRS/usb_top_USBH2_PWR/wdog_WDOG_B, T5 LCDC_LSCLK/SLCDC_CS/ata_DA0/sim2_PD1/gpio1_GPIO[24]/usb_top_USBH2_DATA6/BT_LPB_FREQ0, T6 LCDC_VSYN/i2c3_SDA/ata_DMARQ/sim2_TX1/gpio1_GPIO[23]/usb_top_USBH2_DATA5/BT_UART_SRC2, T7 LCDC_HSYN/i2c3_SCL/ata_BUFFER_EN/sim2_VEN1/gpio1_GPIO[22]/usb_top_USBH2_DATA4/BT_UART_SRC1, T8 LCDC_LD3/SLCDC_DATA3/CSI_D14/ata_DATA3/sim1_TX1/gpio2_GPIO[18]/usb_top_USBH2_NXT/BT_MEM_TYPE1 (io), U3 LCDC_OE_ACD/SLCDC_RS/cspi2_SS0/ata_DA1/sim2_RX1/gpio1_GPIO[25]/usb_top_USBH2_DATA7/BT_LPB_FREQ1, U4 LCDC_LD14/SLCDC_DATA14/cspi2_SCLK/ata_DATA14/kpp_COL6/fec_TDATA3/audmux_AUD3_RXC/BT_EEPROM_CFG (io), U5 LCDC_LD12/SLCDC_DATA12/cspi2_MOSI/ata_DATA12/kpp_ROW6/fec_RDATA3/esdhc2_DAT2/BT_SRC0 (io), U6 LCDC_LD8/SLCDC_DATA8/uart4_RXD_MUX/ata_DATA8/audmux_AUD3_TXD/fec_TX_ERR/esdhc2_CMD/BT_USB_SRC0 (io), U7 LCDC_LD5/SLCDC_DATA5/CSI_D12/ata_DATA5/sim1_RX1/gpio1_GPIO[19]/usb_top_USBH2_DATA1/BT_PAGE_SIZE1 (io), U8 LCDC_LD1/SLCDC_DATA1/CSI_D1/ata_DATA1/sim1_RST1/gpio2_GPIO[16]/usb_top_USBH2_DIR/BT_MEM_CTRL1 (io), V2 pwm1_PWMO/gpt4_CMPOUT1/gpio1_GPIO[26]/usb_top_USBH2_OC/BT_LPB_FREQ2, V3 LCDC_LD15/SLCDC_DATA15/cspi2_RDY/ata_DATA15/kpp_COL7/fec_RX_CLK/audmux_AUD3_RXFS/BT_UART_SRC0 (io), V4 LCDC_LD13/SLCDC_DATA13/cspi2_MISO/ata_DATA13/kpp_ROW7/fec_TDATA2/esdhc2_DAT3/BT_SRC1 (io), V5 LCDC_LD9/SLCDC_DATA9/uart4_TXD_MUX/ata_DATA9/audmux_AUD3_RXD/fec_COL/esdhc2_CLK/BT_USB_SRC1 (io), V6 LCDC_LD6/SLCDC_DATA6/CSI_D11/ata_DATA6/sim2_CLK1/gpio1_GPIO[20]/usb_top_USBH2_DATA2/BT_BUS_WIDTH0 (io), V7 LCDC_LD2/SLCDC_DATA2/CSI_D15/ata_DATA2/sim1_VEN1/gpio2_GPIO[17]/usb_top_USBH2_STP/BT_MEM_TYPE0 (io), W3 LCDC_LD11/SLCDC_DATA11/uart4_CTS/ata_DATA11/audmux_AUD3_TXFS/fec_RDATA2/esdhc2_DAT1/BT_SPARE_SIZE (io), W4 LCDC_LD10/SLCDC_DATA10/uart4_RTS/ata_DATA10/audmux_AUD3_TXC/fec_RX_ERR/esdhc2_DAT0/BT_MLC_SEL (io), W5 LCDC_LD7/SLCDC_DATA7/CSI_D10/ata_DATA7/sim2_RST1/gpio1_GPIO[21]/usb_top_USBH2_DATA3/BT_BUS_WIDTH1 (io), W6 LCDC_LD4/SLCDC_DATA4/CSI_D13/ata_DATA4/sim1_PD1/gpio2_GPIO[19]/usb_top_USBH2_DATA0/BT_PAGE_SIZE0 (io), W7 LCDC_LD0/SLCDC_DATA0/CSI_D0/ata_DATA0/sim1_CLK1/gpio2_GPIO[15]/usb_top_USBH2_CLK/BT_MEM_CTRL0 (io)
part E pins: B19 NC_BGA_B19, J4 fec_TDATA1/esdhc2_DAT1/audmux_AUD4_TXFS/ata_RESET_B/gpio3_GPIO[8]/SDMA_DBG_PC11/LCDC_LD19, K1 fec_MDC/esdhc2_CMD/audmux_AUD4_TXD/ata_DIOR/gpio3_GPIO[5]/SDMA_DBG_PC8/LCDC_LD16, K2 fec_MDIO/esdhc2_CLK/audmux_AUD4_RXD/ata_DIOW/gpio3_GPIO[6]/SDMA_DBG_PC9/LCDC_LD17, K3 fec_TDATA0/esdhc2_DAT0/audmux_AUD4_TXC/ata_DMACK/gpio3_GPIO[7]/SDMA_DBG_PC10/LCDC_LD18, K4 fec_TX_CLK/pwm3_PWMO/esdhc2_DAT6/LCDC_LD16/gpio3_GPIO[13]/SDMA_DBG_PC12/M3IF_CHOSEN_MASTER0, L1 fec_RDATA0/esdhc2_DAT3/audmux_AUD4_RXFS/ata_INTRQ/can1_RXCAN/gpio3_GPIO[10]/kpp_ROW5/LCDC_LD21, L2 fec_TX_EN/esdhc2_DAT2/audmux_AUD4_RXC/ata_IORDY/can1_TXCAN/gpio3_GPIO[9]/kpp_ROW4/LCDC_LD20, L3 fec_RX_DV/i2c2_SDA/esdhc2_DAT5/ata_CS1/can2_RXCAN/gpio3_GPIO[12]/kpp_COL5/LCDC_LD23, L4 fec_RDATA1/i2c2_SCL/esdhc2_DAT4/ata_CS0/can2_TXCAN/gpio3_GPIO[11]/kpp_COL4/LCDC_LD22, N19 NC_BGA_N19, T15 NC_BGA_T15, U15 NC_BGA_U15, U16 NC_BGA_U16, V15 NC_BGA_V15, W2 NC_BGA_W2, W16 NC_BGA_W16
part F pins: M1 kpp_COL3/uart4_CTS/audmux_AUD5_TXFS/gpio3_GPIO[4]/SDMA_DBG_PC7/M3IF_CHOSEN_MASTER2 (in), M2 kpp_COL2/uart4_RTS/audmux_AUD5_TXC/gpio3_GPIO[3]/SDMA_DBG_PC6/M3IF_CHOSEN_MASTER1 (in), M3 kpp_COL1/uart4_TXD_MUX/audmux_AUD5_RXD/gpio3_GPIO[2]/SDMA_DBG_PC5 (in), M4 kpp_ROW0/uart3_RXD_MUX/uart1_DTR/gpio2_GPIO[29]/SDMA_DBG_PC0 (out), M17 gpio1_GPIO[1]/pwm3_PWMO/usb_top_USBOTG_OC/kpp_ROW5/i2c3_SDA/can1_RXCAN, M18 gpio1_GPIO[0]/pwm2_PWMO/usb_top_USBOTG_PWR/kpp_ROW4/i2c3_SCL/can1_TXCAN/obsrv_INT_MUX_OUT, N1 kpp_COL0/uart4_RXD_MUX/audmux_AUD5_TXD/gpio3_GPIO[1]/SDMA_DBG_PC4 (in), N2 kpp_ROW3/uart3_CTS/audmux_AUD5_RXFS/CSI_D1/uart1_RI/gpio3_GPIO[0]/SDMA_DBG_PC3 (out), N3 kpp_ROW2/uart3_RTS/audmux_AUD5_RXC/CSI_D0/uart1_DCD/gpio2_GPIO[31]/SDMA_DBG_PC2 (out), N16 gpio1_GPIO[2]/pwm4_PWMO/i2c2_SCL/kpp_COL4/gpt2_CAPIN1/cspi1_SS2/can2_TXCAN/cspi2_SS2, N17 gpio1_GPIO[4]/LCDC_LD16/i2c3_SCL/audmux_AUD7_TXD/uart4_RXD_MUX/ect_CTI_TRIG_IN0_6, N18 gpio1_GPIO[3]/wdog_WDOG_B/i2c2_SDA/kpp_COL5/gpt2_CMPOUT1/can2_RXCAN/cspi3_SS2, P1 kpp_ROW1/uart3_TXD_MUX/uart1_DSR/gpio2_GPIO[30]/SDMA_DBG_PC1 (out), P18 gpio1_GPIO[5]/LCDC_LD17/epit1_EPITO/audmux_AUD7_TXC/uart4_TXD_MUX/ect_CTI_TRIG_OUT0_6
part G pins: H18 i2c1_SCL/gpio1_GPIO[12]/SLCDC_DATA6 (out), H19 i2c1_SDA/gpio1_GPIO[13]/SLCDC_DATA7 (io), N4 uart2_RXD_MUX/esdhc1_DAT7/gpio4_GPIO[26], P2 uart2_CTS/esdhc1_DAT4/fec_RX_ERR/gpt1_CMPOUT1/gpio4_GPIO[29]/cspi3_SS3/sdma_EXTDMA2, P3 uart2_RTS/esdhc1_DAT5/fec_COL/gpt1_CAPIN1/epit2_EPITO/gpio4_GPIO[28]/cspi2_SS3/sdma_EXTDMA1, P4 cspi1_SS0/LCDC_LD16/pwm2_PWMO/SDMA_DBG_EVT2/gpio1_GPIO[16]/SLCDC_CS/arm926p_TRACE6, R1 uart2_TXD_MUX/esdhc1_DAT6/fec_TX_ERR/gpio4_GPIO[27]/sdma_EXTDMA0, R2 uart1_CTS/CSI_D1/gpt3_CMPOUT1/uart2_RI/LCDC_REV/gpio4_GPIO[25]/SLCDC_DATA11, R3 uart1_RTS/CSI_D0/gpt3_CAPIN1/uart2_DCD/LCDC_PS/gpio4_GPIO[24]/SLCDC_DATA10, R4 cspi1_MOSI/uart3_RXD_MUX/SDMA_DBG_EVT0/gpio1_GPIO[14]/SLCDC_DATA12/arm962p_TRACE4, T1 uart1_TXD_MUX/uart2_DSR/LCDC_SPL/gpio4_GPIO[23]/SLCDC_DATA9, T2 uart1_RXD_MUX/uart2_DTR/LCDC_CLS/gpio4_GPIO[22]/SLCDC_DATA8, T3 cspi1_SCLK/uart3_CTS/SDMA_DBG_EVT4/gpio1_GPIO[18]/SLCDC_DATA14/arm962p_TRACE8, U1 cspi1_RDY/SDMA_DBG_EVT5/gpio2_GPIO[22]/SLCDC_DATA15/arm926p_TRACE9, U2 cspi1_SS1/i2c3_SDA/uart3_RTS/SDMA_DBG_EVT3/gpio1_GPIO{17]/SLCDC_RS/arm926p_TRACE7, V1 cspi1_MISO/uart3_TXD_MUX/SDMA_DBG_EVT1/gpio1_GPIO[15]/SLCDC_DATA13/arm962p_TRACE5
part H pins: E16 CSI_D6/kpp_ROW6/esdhc2_CMD/esai_FST/sim1_PD0/gpio1_GPIO[31]/usb_top_USBOTG_DATA4/cspi3_SS0 (in), E17 CSI_D2/uart5_RXD_MUX/esdhc2_DAT4/esai_SCKR/sim1_CLK0/gpio1_GPIO[27]/usb_top_USBOTG_DATA0/cspi3_MOSI (in), E18 CSI_D4/uart5_RTS/esdhc2_DAT6/esai_HCKR/sim1_VEN0/gpio1_GPIO[29]/usb_top_USBOTG_DATA2/cspi3_SCLK (in), E19 CSI_D9/kpp_COL7/audmux_AUD6_RXFS/esai_TX4_RX1/sim2_RST0/gpio4_GPIO[21]/usb_top_USBOTG_DATA7/cspi3_SS3 (in), F16 CSI_D3/uart5_TXD_MUX/esdhc2_DAT5/esai_FSR/sim1_RST0/gpio1_GPIO[28]/usb_top_USBOTG_DATA1/cspi3_MISO (in), F17 CSI_D5/uart5_CTS/esdhc2_DAT7/esai_SCKT/sim1_TX0/gpio1_GPIO[30]/usb_top_USBOTG_DATA3/cspi3_RDY (in), F18 CSI_D8/kpp_COL6/audmux_AUD6_RXC/esai_TX5_RX0/sim2_CLK0/gpio1_GPIO[7]/usb_top_USBOTG_DATA6/cspi3_SS2 (in), F19 CSI_VSYNC/audmux_AUD6_RXD/esdhc2_DAT1/esai_TX2_RX3/sim2_TX0/gpio1_GPIO[9]/usb_top_USBOTG_STP/BT_RES1 (in), G16 CSI_D7/kpp_ROW7/esdhc2_CLK/esai_HCKT/sim1_RX0/gpio1_GPIO[6]/usb_top_USBOTG_DATA5/cspi3_SS1 (in), G17 CSI_MCLK/audmux_AUD6_TXD/esdhc2_DAT0/esai_TX3_RX2/sim2_VEN0/gpio1_GPIO[8]/usb_top_USBOTG_DIR/BT_RES0 (out), G18 CSI_HSYNC/audmux_AUD6_TXC/esdhc2_DAT2/esai_TX1/sim2_PD0/gpio1_GPIO[10]/usb_top_USBOTG_NXT/BT_RES2 (in), G19 CSI_PIXCLK/audmux_AUD6_TXFS/esdhc2_DAT3/esai_TX0/sim2_RX0/gpio1_GPIO[11]/usb_top_USBOTG_CLK/BT_RES3 (in)
part I pins: H17 USBPHY1_UID, J16 USBPHY1_VBUS, J17 USBPHY1_DM, J19 esdhc1_DAT3/cspi2_SS1/fec_CRS/audmux_AUD7_RXFS/gpio2_GPIO[28]/SLCDC_DATA5/arm926p_TRACE15, K16 USBPHY1_RREF, K17 USBPHY1_DP, K19 esdhc1_CMD/cspi2_MOSI/fec_RDATA2/SDMA_DBG_EVT_SEL/gpio2_GPIO[23]/SLCDC_DATA0/arm926p_TRACE10, L17 esdhc1_DAT2/cspi2_SS0/fec_RX_CLK/audmux_AUD7_RXC/SDMA_DBG_STAT3/gpio2_GPIO[27]/SLCDC_DATA4/arm926p_TRACE14, L18 esdhc1_CLK/cspi2_MISO/fec_RDATA3/SDMA_DBG_STAT0/gpio2_GPIO[24]/SLCDC_DATA1/arm926p_TRACE11, L19 esdhc1_DAT0/cspi2_SCLK/fec_TDATA2/audmux_AUD7_TXFS/SDMA_DBG_STAT1/gpio2_GPIO[25]/SLCDC_DATA2/arm926p_TRACE12, M19 esdhc1_DAT1/cspi2_RDY/fec_TDATA3/audmux_AUD7_RXD/SDMA_DBG_STAT2/gpio2_GPIO[26]/SLCDC_DATA3/arm926p_TRACE13, W17 USBPHY2_DP, W18 USBPHY2_DM
part J pins: M10 TAMPER_A, M11 TAMPER_B, N11 MESH_C, N12 MESH_D, P17 crm_VSTBY_REQ/audmux_AUD7_TXFS/gpio3_GPIO[17]/uart4_RTS, P19 crm_EXT_ARMCLK/gpio3_GPIO[15], R17 RESET_B, R18 POWER_FAIL_int/audmux_AUD7_RXD/gpio3_GPIO[19]/uart4_CTS, R19 crm_HRESET_B/crm_VSTBY_ACK/cspi1_SS3/epit1_EPITO/gpio3_GPIO[18], T9 SJC_MOD, T11 INAUX0, T12 INAUX2, T13 XN, T14 WIPER, T18 POR_B, T19 crm_UPLL_BYPCLK/gpio3_GPIO[16], U9 TRSTB, U10 TCK, U11 REF, U12 INAUX1, U13 YP, U14 XP, U17 TEST_MODE, U18 crm_BOOT_MODE0/gpio4_GPIO[30], U19 crm_CLKO/gpio2_GPIO[21], V8 DE_B/gpio2_GPIO[20], V9 TDI, V10 arm926p_RTCK/owire_LINE/esdhc2_DAT7/gpio3_GPIO[14]/SDMA_DBG_PC13, V12 YN, V18 CLK_SEL, V19 crm_BOOT_MODE1/gpio4_GPIO[31], W8 TDO, W9 TMS, W10 OSC32K_XTAL, W11 OSC32K_EXTAL, W12 OSC_BYP, W14 OSC24M_EXTAL, W15 OSC24M_XTAL
part B text: NVCC_EMI2; NVCC_EMI1
part C text: NVCC_EMI2; NVCC_EMI1
part I text: USBPHY1; USBPHY1_BIAS; USBPHY2
part J text: OSC24M

## IND
designator L?
pins: 1, 2

## INDUCTOR
designator L?
pins: 1, 2

## K4T51163Q
designator U?
pins: A1 VDD1, A2 NC1, A3 VSS1, A7 VSSQ1, A8 ~{UDQS}, A9 VDDQ1, B1 DQ14, B2 VSSQ2, B3 UDM, B7 UDQS, B8 VSSQ3, B9 DQ15, C1 VDDQ2, C2 DQ9, C3 VDDQ3, C7 VDDQ4, C8 DQ8, C9 VDDQ5, D1 DQ12, D2 VSSQ4, D3 DQ11, D7 DQ10, D8 VSSQ5, D9 DQ13, E1 VDD2, E2 NC2, E3 VSS2, E7 VSSQ6, E8 ~{LDQS}, E9 VDDQ6, F1 DQ6, F2 VSSQ7, F3 LDM, F7 LDQS, F8 VSSQ8, F9 DQ7, G1 VDDQ7, G2 DQ1, G3 VDDQ8, G7 VDDQ9, G8 DQ0, G9 VDDQ10, H1 DQ4, H2 VSSQ9, H3 DQ3, H7 DQ2, H8 VSSQ10, H9 DQ5, J1 VDDL, J2 VREF, J3 VSS3, J7 VSSDL, J8 CLK, J9 VDD4, K2 CKE, K3 ~{WE}, K7 ~{RAS}, K8 ~{CLK}, K9 ODT, L1 RFU1, L2 BA0, L3 BA1, L7 ~{CAS}, L8 ~{CS}, M2 A10/AP, M3 A1, M7 A2, M8 A0, M9 VDD3, N1 VSS4, N2 A3, N3 A5, N7 A6, N8 A4, P2 A7, P3 A9, P7 A11, P8 A8, P9 VSS5, R1 VDD5, R2 A12, R3 RFU2, R7 RFU3, R8 RFU4

## K9LBG08U0D_TSOP_48P
designator U?
pins: 1 NC1, 2 NC2, 3 NC3, 4 NC4, 5 NC5, 6 NC6, 7 R/~{B} (oc), 8 ~{RE} (in), 9 ~{CE} (in), 10 NC10, 11 NC11, 12 VCC1 (power), 13 VSS1 (power), 14 NC14, 15 NC15, 16 CLE (in), 17 ALE (in), 18 ~{WE} (in), 19 ~{WP} (in), 20 NC20, 21 NC21, 22 NC22, 23 NC23, 24 NC24, 25 NC25, 26 NC26, 27 NC27, 28 NC28, 29 I/O0 (io), 30 I/O1 (io), 31 I/O2 (io), 32 I/O3 (io), 33 NC33, 34 NC34, 35 NC35, 36 VSS2 (power), 37 VCC2 (power), 38 NC38, 39 NC39, 40 NC40, 41 I/O4 (io), 42 I/O5 (io), 43 I/O6 (io), 44 I/O7 (io), 45 NC45, 46 NC46, 47 NC47, 48 NC48
text: NAND; FLASH

## K9LBG08U0D_TSOP_48P_CUST
designator U?
pins: 1 NC1, 2 NC2, 3 NC3, 4 NC4, 5 NC5, 6 NC6, 7 R/~{B} (oc), 8 ~{RE} (in), 9 ~{CE} (in), 10 NC10, 11 NC11, 12 VCC1 (power), 13 VSS2 (power), 14 NC14, 15 NC15, 16 CLE (in), 17 ALE (in), 18 ~{WE} (in), 19 ~{WP} (in), 20 NC20, 21 NC21, 22 NC22, 23 NC23, 24 NC24, 25 NC25, 26 NC26, 27 NC27, 28 NC28, 29 I/O0 (io), 30 I/O1 (io), 31 I/O2 (io), 32 I/O3 (io), 33 NC33, 34 NC34, 35 NC35, 36 VSS1 (power), 37 VCC2 (power), 38 NC38, 39 NC39, 40 NC40, 41 I/O4 (io), 42 I/O5 (io), 43 I/O6 (io), 44 I/O7 (io), 45 NC45, 46 NC46, 47 NC47, 48 NC48
text: NAND; FLASH; R/B1#; CE1#; R/B2#; CE2#; R/B3#; CE3#

## LED
designator D?
pins: 1 CATHODE, 2 ANODE

## MAX9701_25P
designator U?
pins: 1 ~{SHDN} (in), 2 SYNC (in), 3 NC3, 4 OUTL+ (out), 5 PVDD (power), 6 PGND (power), 7 OUTL- (out), 8 NC8, 9 GND (power), 10 SYNC_OUT (out), 11 NC11, 12 OUTR- (out), 13 PGND (power), 14 PVDD (power), 15 OUTR+ (out), 16 NC16, 17 GAIN1 (in), 18 GAIN2 (in), 19 INR- (in), 20 INR+ (in), 21 VDD (power), 22 GND (power), 23 INL+ (in), 24 INL- (in), 25 EP (power)

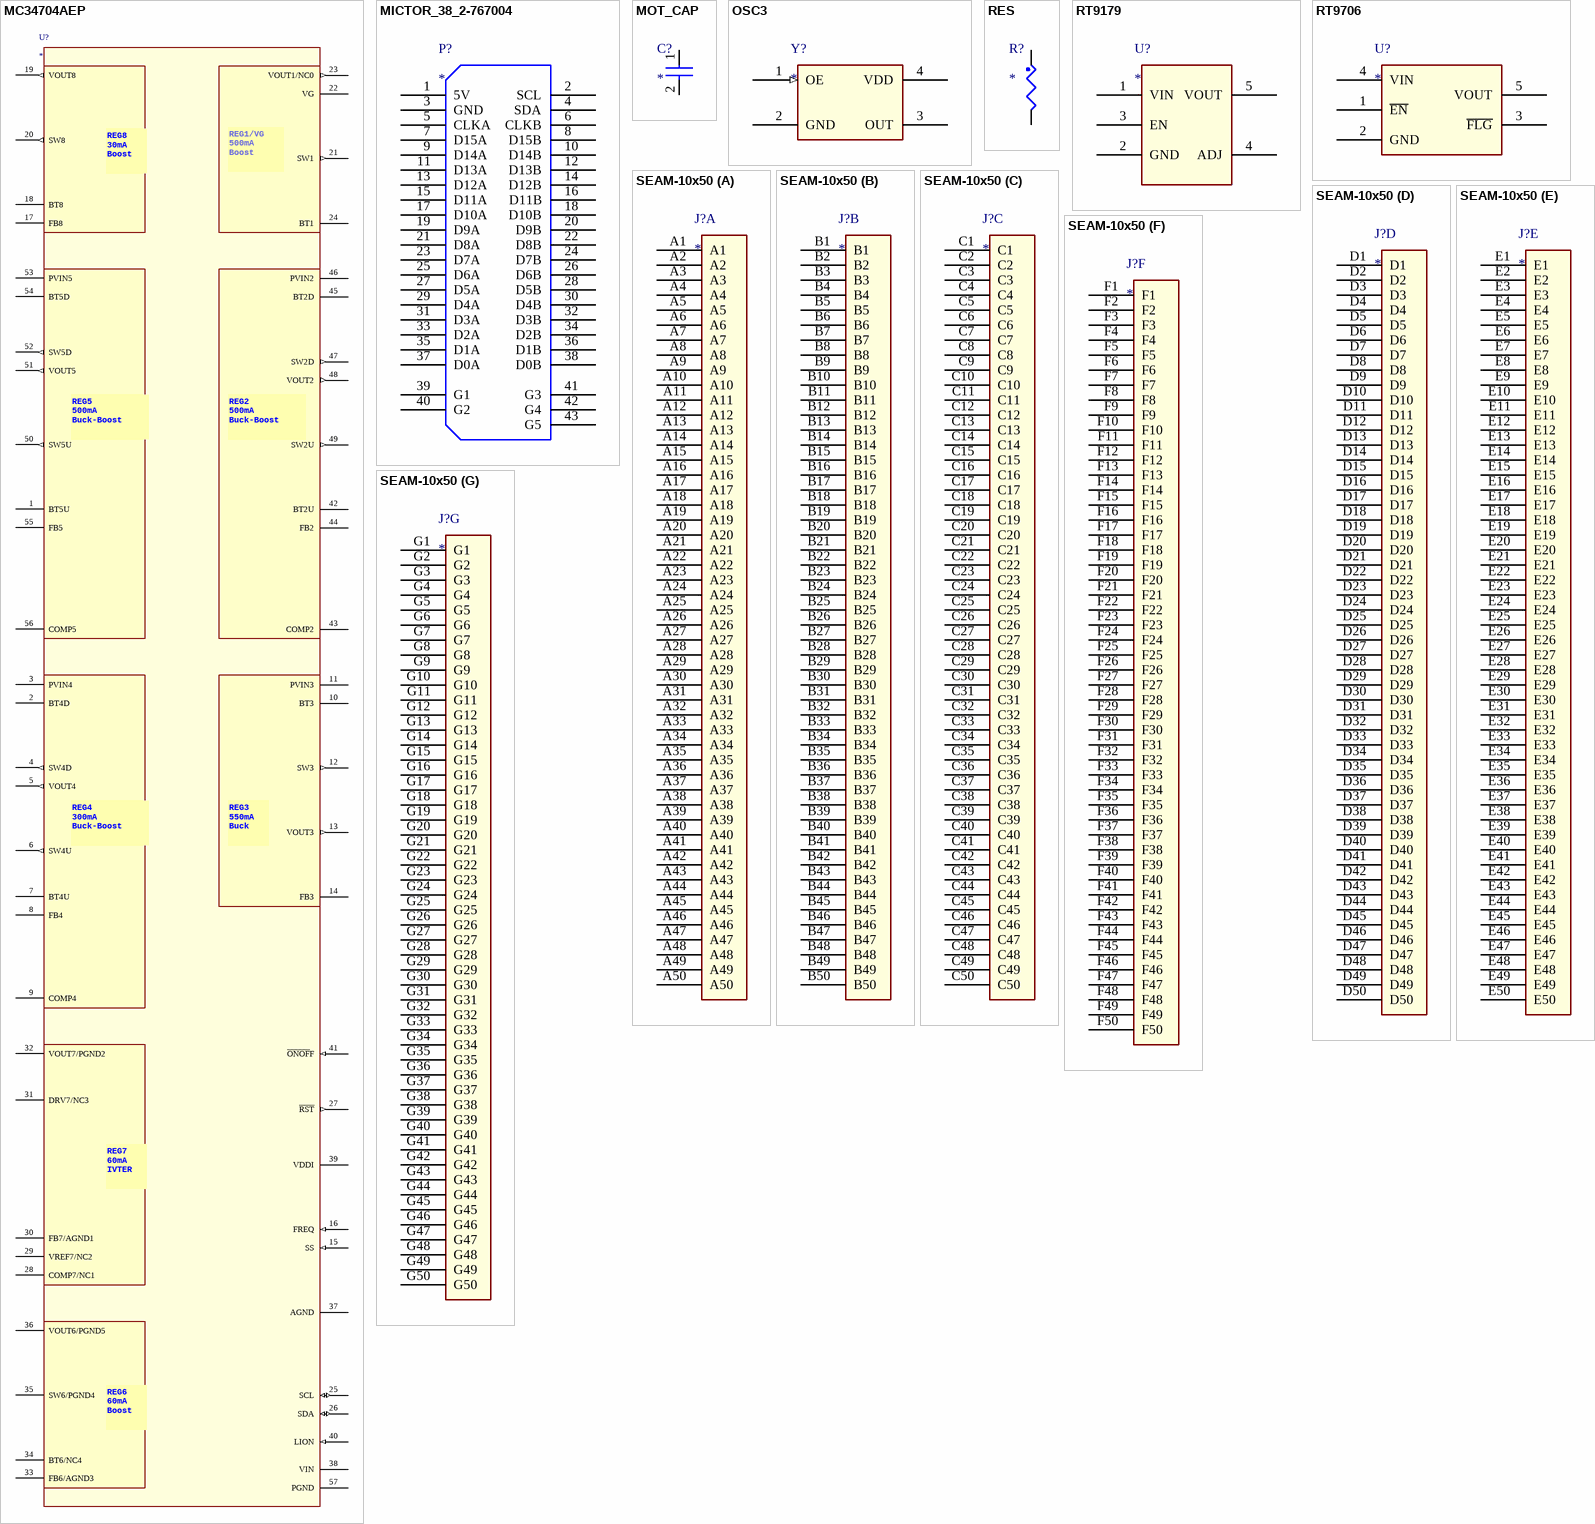
[diagram p9: symbols MC34704AEP to SEAM-10x50]

## MC34704AEP
designator U?
pins: 1 BT5U, 2 BT4D, 3 PVIN4 (power), 4 SW4D (out), 5 VOUT4 (out), 6 SW4U (out), 7 BT4U, 8 FB4, 9 COMP4, 10 BT3, 11 PVIN3 (power), 12 SW3 (out), 13 VOUT3 (out), 14 FB3, 15 SS (in), 16 FREQ (in), 17 FB8, 18 BT8, 19 VOUT8 (out), 20 SW8 (out), 21 SW1 (out), 22 VG, 23 VOUT1/NC0 (out), 24 BT1, 25 SCL (io), 26 SDA (io), 27 ~{RST} (out), 28 COMP7/NC1, 29 VREF7/NC2, 30 FB7/AGND1, 31 DRV7/NC3, 32 VOUT7/PGND2, 33 FB6/AGND3, 34 BT6/NC4, 35 SW6/PGND4, 36 VOUT6/PGND5, 37 AGND (power), 38 VIN (power), 39 VDDI, 40 LION (in), 41 ~{ONOF}F (in), 42 BT2U, 43 COMP2, 44 FB2, 45 BT2D, 46 PVIN2 (power), 47 SW2D (out), 48 VOUT2 (out), 49 SW2U (out), 50 SW5U (out), 51 VOUT5 (out), 52 SW5D (out), 53 PVIN5 (power), 54 BT5D, 55 FB5, 56 COMP5, 57 PGND (power)
text: REG1/VG / 500mA / Boost; REG8 / 30mA / Boost; REG5 / 500mA / Buck-Boost; REG2 / 500mA / Buck-Boost; REG4 / 300mA / Buck-Boost; REG3 / 550mA / Buck; REG7 / 60mA / IVTER; REG6 / 60mA / Boost

## MICTOR_38_2-767004
designator P?
pins: 1 5V, 2 SCL, 3 GND, 4 SDA, 5 CLKA, 6 CLKB, 7 D15A, 8 D15B, 9 D14A, 10 D14B, 11 D13A, 12 D13B, 13 D12A, 14 D12B, 15 D11A, 16 D11B, 17 D10A, 18 D10B, 19 D9A, 20 D9B, 21 D8A, 22 D8B, 23 D7A, 24 D7B, 25 D6A, 26 D6B, 27 D5A, 28 D5B, 29 D4A, 30 D4B, 31 D3A, 32 D3B, 33 D2A, 34 D2B, 35 D1A, 36 D1B, 37 D0A, 38 D0B, 39 G1 (power), 40 G2 (power), 41 G3 (power), 42 G4 (power), 43 G5 (power)

## MOT_CAP
designator C?
pins: 1, 2

## OSC3
designator Y?
pins: 1 OE (in), 2 GND (power), 3 OUT (hiz), 4 VDD (power)

## RES
designator R?
pins: 1, 2

## RT9179
designator U?
pins: 1 VIN, 2 GND, 3 EN, 4 ADJ, 5 VOUT

## RT9706
designator U?
pins: 1 ~{EN}, 2 GND (power), 3 ~{FLG}, 4 VIN, 5 VOUT

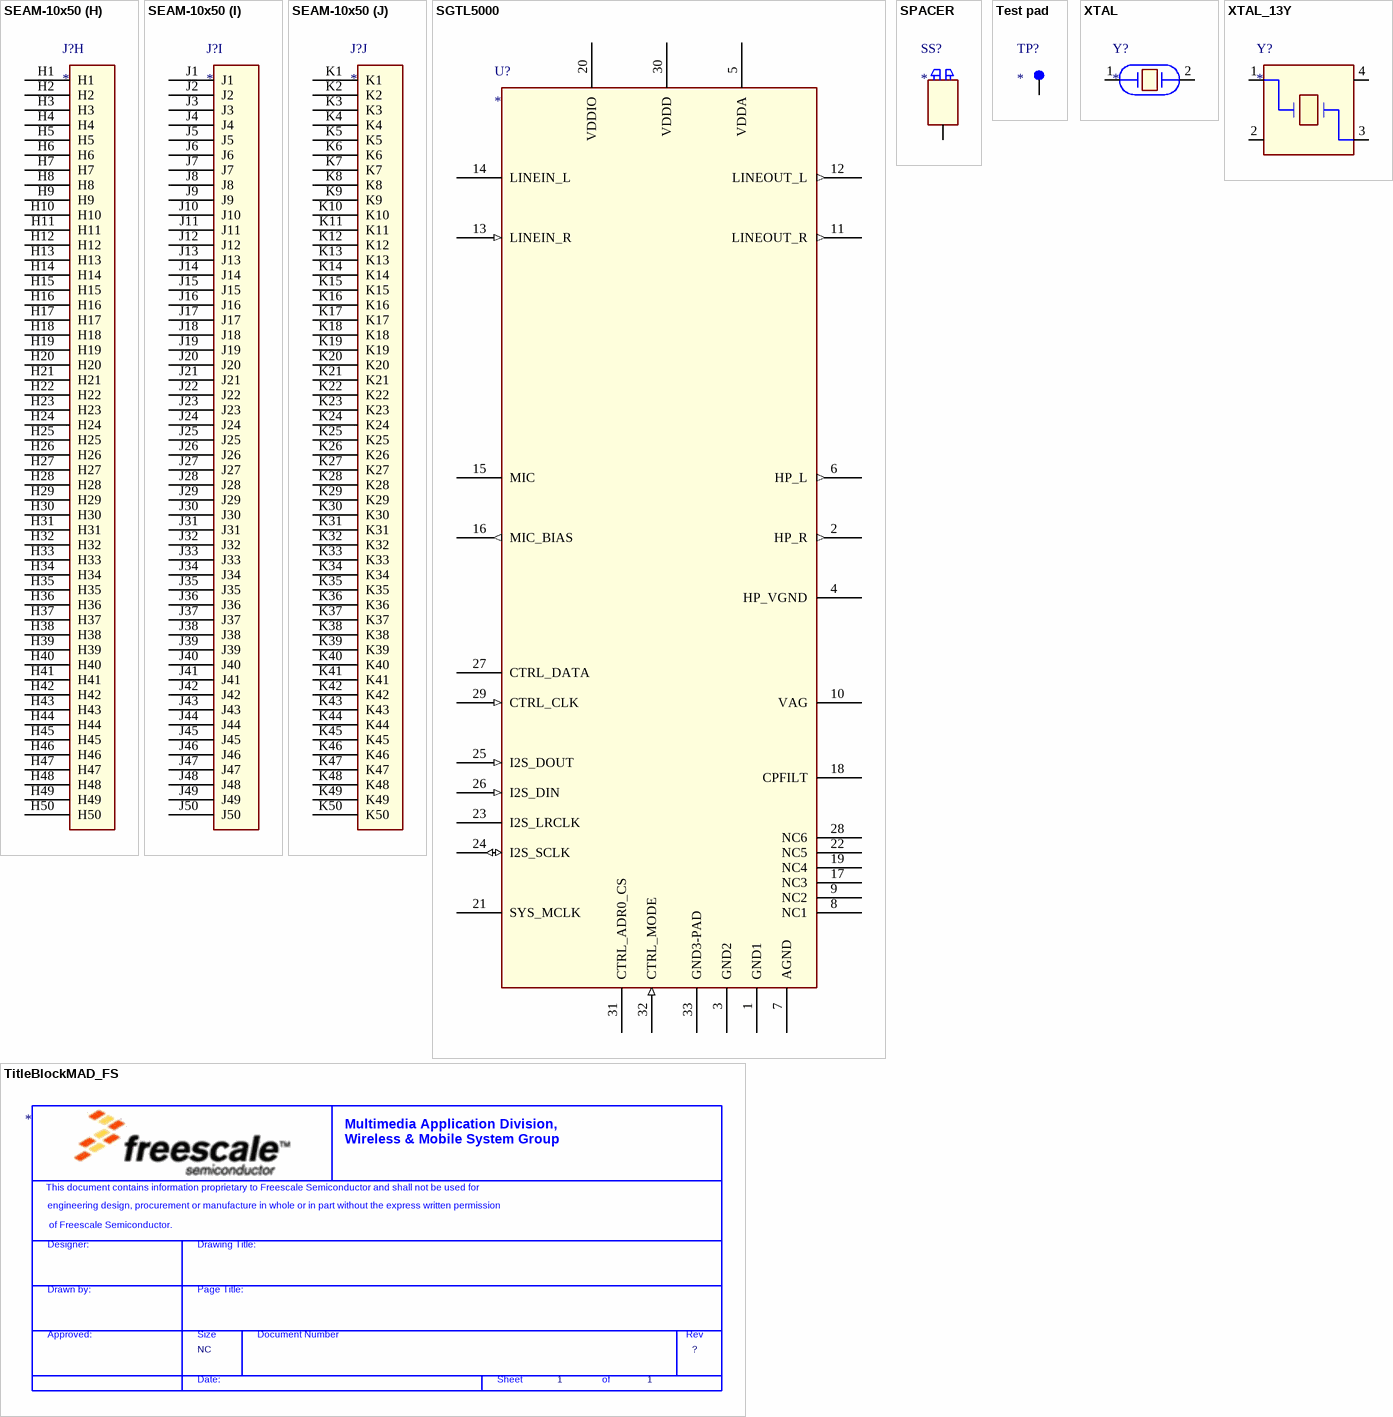
[diagram p10: symbols SEAM-10x50 to XTAL_13Y]

## SEAM-10x50
designator J?
part A pins: A1, A2, A3, A4, A5, A6, A7, A8, A9, A10, A11, A12, A13, A14, A15, A16, A17, A18, A19, A20, A21, A22, A23, A24, A25, A26, A27, A28, A29, A30, A31, A32, A33, A34, A35, A36, A37, A38, A39, A40, A41, A42, A43, A44, A45, A46, A47, A48, A49, A50
part B pins: B1, B2, B3, B4, B5, B6, B7, B8, B9, B10, B11, B12, B13, B14, B15, B16, B17, B18, B19, B20, B21, B22, B23, B24, B25, B26, B27, B28, B29, B30, B31, B32, B33, B34, B35, B36, B37, B38, B39, B40, B41, B42, B43, B44, B45, B46, B47, B48, B49, B50
part C pins: C1, C2, C3, C4, C5, C6, C7, C8, C9, C10, C11, C12, C13, C14, C15, C16, C17, C18, C19, C20, C21, C22, C23, C24, C25, C26, C27, C28, C29, C30, C31, C32, C33, C34, C35, C36, C37, C38, C39, C40, C41, C42, C43, C44, C45, C46, C47, C48, C49, C50
part D pins: D1, D2, D3, D4, D5, D6, D7, D8, D9, D10, D11, D12, D13, D14, D15, D16, D17, D18, D19, D20, D21, D22, D23, D24, D25, D26, D27, D28, D29, D30, D31, D32, D33, D34, D35, D36, D37, D38, D39, D40, D41, D42, D43, D44, D45, D46, D47, D48, D49, D50
part E pins: E1, E2, E3, E4, E5, E6, E7, E8, E9, E10, E11, E12, E13, E14, E15, E16, E17, E18, E19, E20, E21, E22, E23, E24, E25, E26, E27, E28, E29, E30, E31, E32, E33, E34, E35, E36, E37, E38, E39, E40, E41, E42, E43, E44, E45, E46, E47, E48, E49, E50
part F pins: F1, F2, F3, F4, F5, F6, F7, F8, F9, F10, F11, F12, F13, F14, F15, F16, F17, F18, F19, F20, F21, F22, F23, F24, F25, F26, F27, F28, F29, F30, F31, F32, F33, F34, F35, F36, F37, F38, F39, F40, F41, F42, F43, F44, F45, F46, F47, F48, F49, F50
part G pins: G1, G2, G3, G4, G5, G6, G7, G8, G9, G10, G11, G12, G13, G14, G15, G16, G17, G18, G19, G20, G21, G22, G23, G24, G25, G26, G27, G28, G29, G30, G31, G32, G33, G34, G35, G36, G37, G38, G39, G40, G41, G42, G43, G44, G45, G46, G47, G48, G49, G50
part H pins: H1, H2, H3, H4, H5, H6, H7, H8, H9, H10, H11, H12, H13, H14, H15, H16, H17, H18, H19, H20, H21, H22, H23, H24, H25, H26, H27, H28, H29, H30, H31, H32, H33, H34, H35, H36, H37, H38, H39, H40, H41, H42, H43, H44, H45, H46, H47, H48, H49, H50
part I pins: J1, J2, J3, J4, J5, J6, J7, J8, J9, J10, J11, J12, J13, J14, J15, J16, J17, J18, J19, J20, J21, J22, J23, J24, J25, J26, J27, J28, J29, J30, J31, J32, J33, J34, J35, J36, J37, J38, J39, J40, J41, J42, J43, J44, J45, J46, J47, J48, J49, J50
part J pins: K1, K2, K3, K4, K5, K6, K7, K8, K9, K10, K11, K12, K13, K14, K15, K16, K17, K18, K19, K20, K21, K22, K23, K24, K25, K26, K27, K28, K29, K30, K31, K32, K33, K34, K35, K36, K37, K38, K39, K40, K41, K42, K43, K44, K45, K46, K47, K48, K49, K50

## SGTL5000
designator U?
pins: 1 GND1, 2 HP_R (out), 3 GND2, 4 HP_VGND, 5 VDDA, 6 HP_L (out), 7 AGND, 8 NC1, 9 NC2, 10 VAG, 11 LINEOUT_R (out), 12 LINEOUT_L (out), 13 LINEIN_R (in), 14 LINEIN_L, 15 MIC, 16 MIC_BIAS (out), 17 NC3, 18 CPFILT, 19 NC4, 20 VDDIO, 21 SYS_MCLK, 22 NC5, 23 I2S_LRCLK, 24 I2S_SCLK (io), 25 I2S_DOUT (in), 26 I2S_DIN (in), 27 CTRL_DATA (hiz), 28 NC6, 29 CTRL_CLK (in), 30 VDDD, 31 CTRL_ADR0_CS, 32 CTRL_MODE (in), 33 GND3-PAD

## SPACER
designator SS?
pins: 1 NC_1

## Test pad
designator TP?
pins: 1 Pin1

## TitleBlockMAD_FS
designator *  Page Size: NC  Page Number: 1  (graphical)
Page Create Date: March  8, 1995; RevCode: ?; Page Count: 1
text: Multimedia Application Division, / Wireless & Mobile System Group; This document contains information proprietary to Freescale Semiconductor and shall not be used for; engineering design, procurement or manufacture in whole or in part without the express written permission; of Freescale Semiconductor.; Designer:; Drawing Title:; Drawn by:; Page Title:; Approved:; Size; Document Number; Rev; Date:; Sheet; of

## XTAL
designator Y?
pins: 1, 2

## XTAL_13Y
designator Y?
pins: 1, 2, 3, 4